# Altium integrated library exar.IntLib: 109 symbols
Pins are listed as number, name and electrical type; pins without a type are passive.

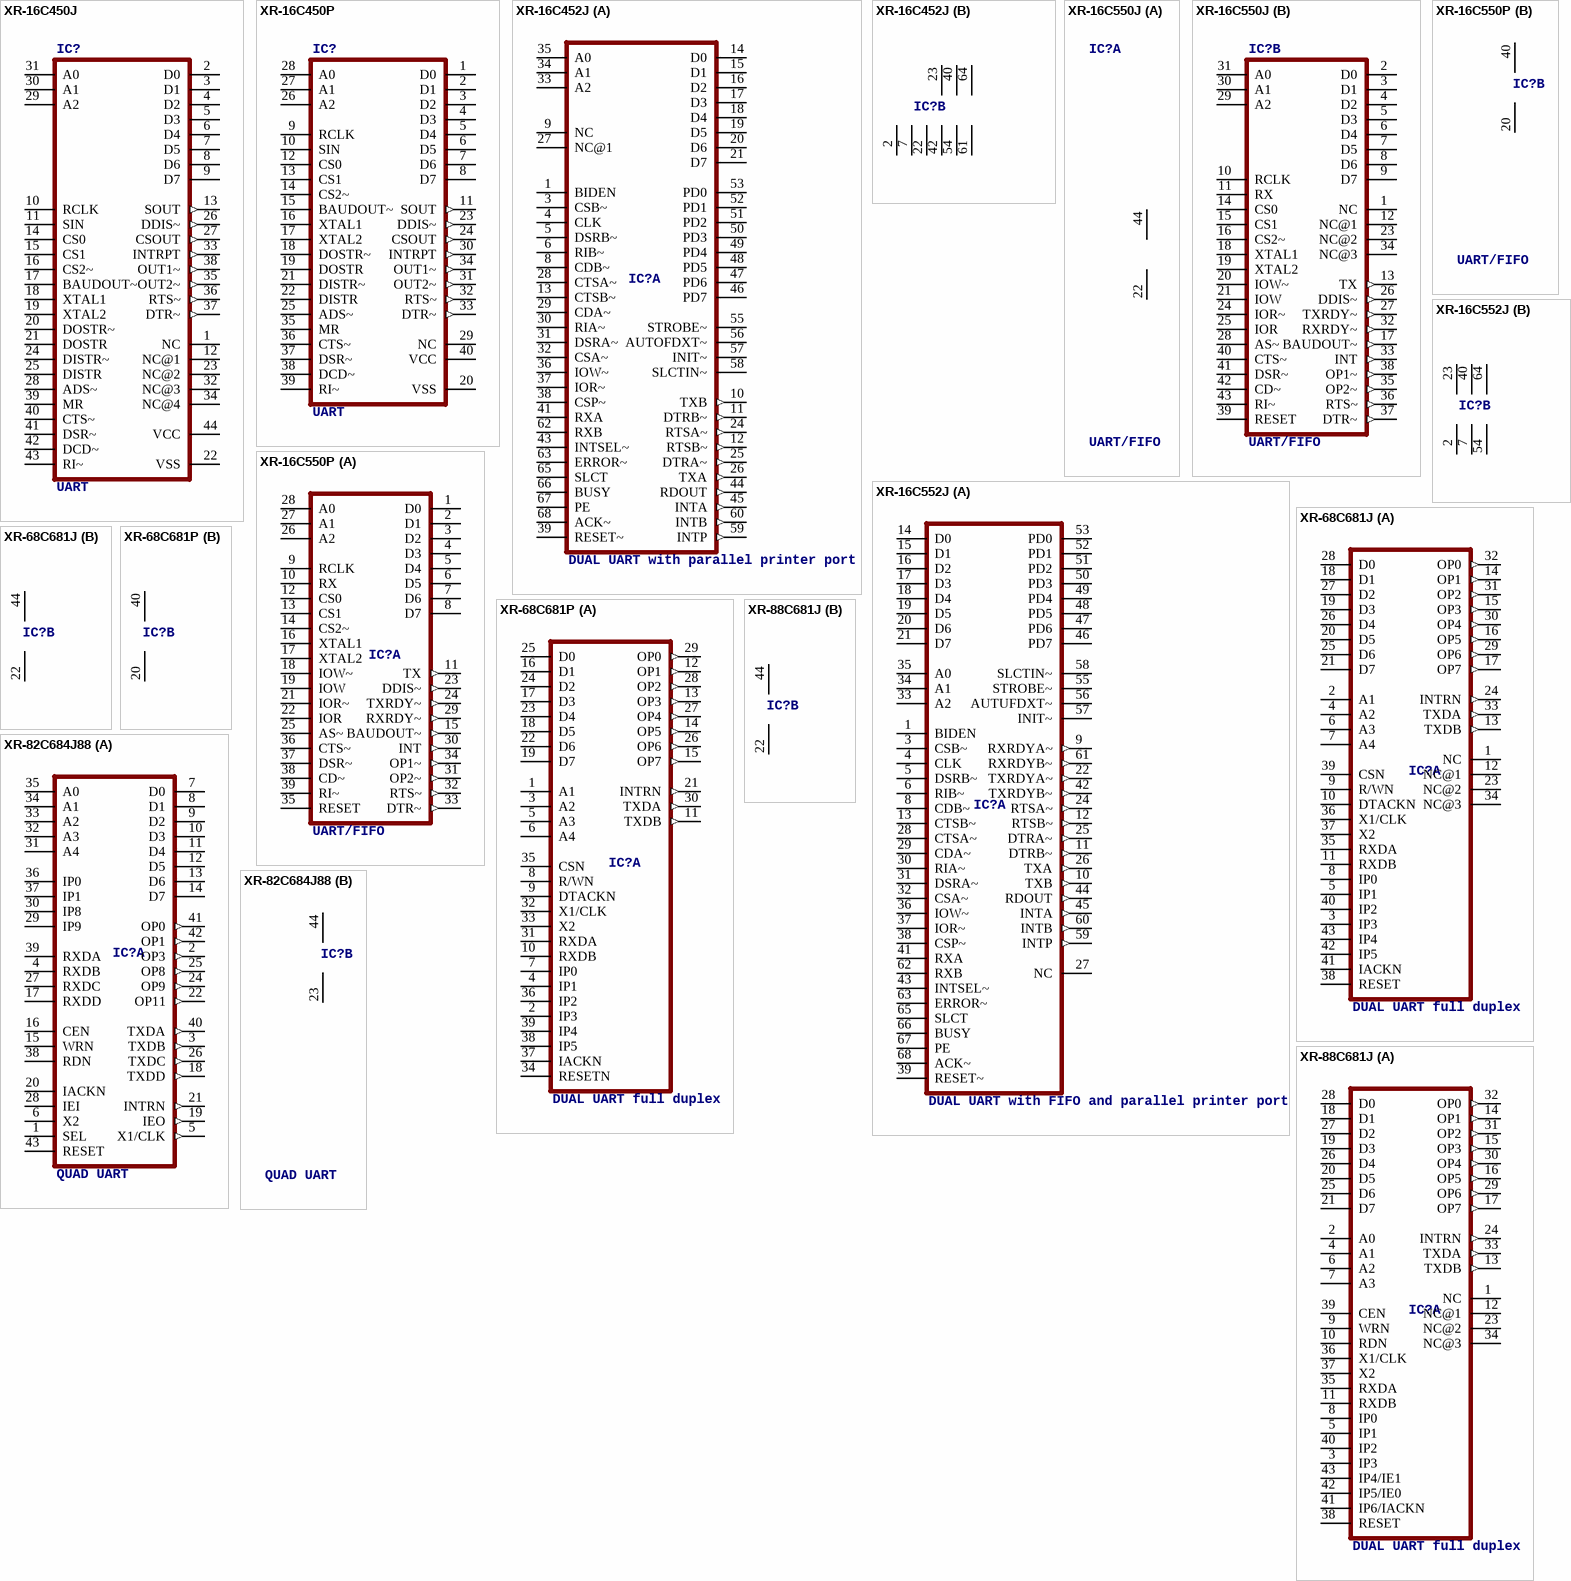
[diagram p0: symbols XR-16C450J to XR-88C681J]

## XR-16C450J
designator IC?, comment UART
MPN: TL16C450FNR; MF: TEXAS INSTRUMENTS; OC_FARNELL: unknown; OC_NEWARK: 76C9161
footprint PLCC44
pins: 1 NC, 2 D0, 3 D1, 4 D2, 5 D3, 6 D4, 7 D5, 8 D6, 9 D7, 10 RCLK, 11 SIN, 12 NC@1, 13 SOUT (out), 14 CS0, 15 CS1, 16 CS2~, 17 BAUDOUT~, 18 XTAL1, 19 XTAL2, 20 DOSTR~, 21 DOSTR, 22 VSS (power), 23 NC@2, 24 DISTR~, 25 DISTR, 26 DDIS~ (out), 27 CSOUT (out), 28 ADS~, 29 A2, 30 A1, 31 A0, 32 NC@3, 33 INTRPT (out), 34 NC@4, 35 OUT2~ (out), 36 RTS~ (out), 37 DTR~ (out), 38 OUT1~ (out), 39 MR, 40 CTS~, 41 DSR~, 42 DCD~, 43 RI~, 44 VCC (power)

## XR-16C450P
designator IC?, comment UART
MPN: ST16C450CP40; OC_FARNELL: 1209618; OC_NEWARK: 24R1445
footprint DIL40
pins: 1 D0, 2 D1, 3 D2, 4 D3, 5 D4, 6 D5, 7 D6, 8 D7, 9 RCLK, 10 SIN, 11 SOUT (out), 12 CS0, 13 CS1, 14 CS2~, 15 BAUDOUT~, 16 XTAL1, 17 XTAL2, 18 DOSTR~, 19 DOSTR, 20 VSS (power), 21 DISTR~, 22 DISTR, 23 DDIS~ (out), 24 CSOUT (out), 25 ADS~, 26 A2, 27 A1, 28 A0, 29 NC, 30 INTRPT (out), 31 OUT2~ (out), 32 RTS~ (out), 33 DTR~ (out), 34 OUT1~ (out), 35 MR, 36 CTS~, 37 DSR~, 38 DCD~, 39 RI~, 40 VCC (power)

## XR-16C452J
designator IC?, comment DUAL UART with parallel printer port
MPN: TL16C452FN; MF: TEXAS INSTRUMENTS; OC_FARNELL: unknown; OC_NEWARK: 15M1967
footprint PLCC68
part A pins: 1 BIDEN, 3 CSB~, 4 CLK, 5 DSRB~, 6 RIB~, 8 CDB~, 9 NC, 10 TXB (out), 11 DTRB~ (out), 12 RTSB~ (out), 13 CTSB~, 14 D0, 15 D1, 16 D2, 17 D3, 18 D4, 19 D5, 20 D6, 21 D7, 24 RTSA~ (out), 25 DTRA~ (out), 26 TXA (out), 27 NC@1, 28 CTSA~, 29 CDA~, 30 RIA~, 31 DSRA~, 32 CSA~, 33 A2, 34 A1, 35 A0, 36 IOW~, 37 IOR~, 38 CSP~, 39 RESET~, 41 RXA, 43 INTSEL~, 44 RDOUT (out), 45 INTA (out), 46 PD7, 47 PD6, 48 PD5, 49 PD4, 50 PD3, 51 PD2, 52 PD1, 53 PD0, 55 STROBE~, 56 AUTOFDXT~, 57 INIT~, 58 SLCTIN~, 59 INTP (out), 60 INTB (out), 62 RXB, 63 ERROR~, 65 SLCT, 66 BUSY, 67 PE, 68 ACK~
part B pins: 2 GND (power), 7 GND@1 (power), 22 GND@2 (power), 23 VCC (power), 40 VCC@1 (power), 42 GND@3 (power), 54 GND@4 (power), 61 GND@5 (power), 64 VCC@2 (power)

## XR-16C550J
designator IC?, comment UART/FIFO
MPN: SC16C550BIA44; OC_FARNELL: 1564955; OC_NEWARK: 24M7289
footprint PLCC44
part A pins: 22 GND (power), 44 VCC (power)
part B pins: 1 NC, 2 D0, 3 D1, 4 D2, 5 D3, 6 D4, 7 D5, 8 D6, 9 D7, 10 RCLK, 11 RX, 12 NC@1, 13 TX (out), 14 CS0, 15 CS1, 16 CS2~, 17 BAUDOUT~ (out), 18 XTAL1, 19 XTAL2, 20 IOW~, 21 IOW, 23 NC@2, 24 IOR~, 25 IOR, 26 DDIS~ (out), 27 TXRDY~ (out), 28 AS~, 29 A2, 30 A1, 31 A0, 32 RXRDY~ (out), 33 INT (out), 34 NC@3, 35 OP2~ (out), 36 RTS~ (out), 37 DTR~ (out), 38 OP1~ (out), 39 RESET, 40 CTS~, 41 DSR~, 42 CD~, 43 RI~

## XR-16C550P
designator IC?, comment UART/FIFO
MPN: ST16C450CP40; OC_FARNELL: 1294801; OC_NEWARK: 24R1445
footprint DIL40
part A pins: 1 D0, 2 D1, 3 D2, 4 D3, 5 D4, 6 D5, 7 D6, 8 D7, 9 RCLK, 10 RX, 11 TX (out), 12 CS0, 13 CS1, 14 CS2~, 15 BAUDOUT~ (out), 16 XTAL1, 17 XTAL2, 18 IOW~, 19 IOW, 21 IOR~, 22 IOR, 23 DDIS~ (out), 24 TXRDY~ (out), 25 AS~, 26 A2, 27 A1, 28 A0, 29 RXRDY~ (out), 30 INT (out), 31 OP2~ (out), 32 RTS~ (out), 33 DTR~ (out), 34 OP1~ (out), 35 RESET, 36 CTS~, 37 DSR~, 38 CD~, 39 RI~
part B pins: 20 GND (power), 40 VCC (power)

## XR-16C552J
designator IC?, comment DUAL UART with FIFO and parallel printer port
MPN: TL16C552AFNRG4; OC_FARNELL: 1703245; OC_NEWARK: 99K4382
footprint PLCC68
part A pins: 1 BIDEN, 3 CSB~, 4 CLK, 5 DSRB~, 6 RIB~, 8 CDB~, 9 RXRDYA~ (out), 10 TXB (out), 11 DTRB~ (out), 12 RTSB~ (out), 13 CTSB~, 14 D0, 15 D1, 16 D2, 17 D3, 18 D4, 19 D5, 20 D6, 21 D7, 22 TXRDYA~ (out), 24 RTSA~ (out), 25 DTRA~ (out), 26 TXA (out), 27 NC, 28 CTSA~, 29 CDA~, 30 RIA~, 31 DSRA~, 32 CSA~, 33 A2, 34 A1, 35 A0, 36 IOW~, 37 IOR~, 38 CSP~, 39 RESET~, 41 RXA, 42 TXRDYB~ (out), 43 INTSEL~, 44 RDOUT (out), 45 INTA (out), 46 PD7, 47 PD6, 48 PD5, 49 PD4, 50 PD3, 51 PD2, 52 PD1, 53 PD0, 55 STROBE~, 56 AUTUFDXT~, 57 INIT~, 58 SLCTIN~, 59 INTP (out), 60 INTB (out), 61 RXRDYB~ (out), 62 RXB, 63 ERROR~, 65 SLCT, 66 BUSY, 67 PE, 68 ACK~
part B pins: 2 GND (power), 7 GND@1 (power), 23 VCC (power), 40 VCC@1 (power), 54 GND@2 (power), 64 VCC@2 (power)

## XR-68C681J
designator IC?, comment DUAL UART full duplex
MPN: XR68C681J-F; OC_FARNELL: 1716908; OC_NEWARK: 24R2385
footprint PLCC44
part A pins: 1 NC, 2 A1, 3 IP3, 4 A2, 5 IP1, 6 A3, 7 A4, 8 IP0, 9 R/WN, 10 DTACKN, 11 RXDB, 12 NC@1, 13 TXDB (out), 14 OP1 (out), 15 OP3 (out), 16 OP5 (out), 17 OP7 (out), 18 D1, 19 D3, 20 D5, 21 D7, 23 NC@2, 24 INTRN (out), 25 D6, 26 D4, 27 D2, 28 D0, 29 OP6 (out), 30 OP4 (out), 31 OP2 (out), 32 OP0 (out), 33 TXDA (out), 34 NC@3, 35 RXDA, 36 X1/CLK, 37 X2, 38 RESET, 39 CSN, 40 IP2, 41 IACKN, 42 IP5, 43 IP4
part B pins: 22 GND (power), 44 VCC (power)

## XR-68C681P
designator IC?, comment DUAL UART full duplex
MPN: XR68C681P; OC_FARNELL: unknown; OC_NEWARK: 24R2389
footprint DIL40
part A pins: 1 A1, 2 IP3, 3 A2, 4 IP1, 5 A3, 6 A4, 7 IP0, 8 R/WN, 9 DTACKN, 10 RXDB, 11 TXDB (out), 12 OP1 (out), 13 OP3 (out), 14 OP5 (out), 15 OP7 (out), 16 D1, 17 D3, 18 D5, 19 D7, 21 INTRN (out), 22 D6, 23 D4, 24 D2, 25 D0, 26 OP6 (out), 27 OP4 (out), 28 OP2 (out), 29 OP0 (out), 30 TXDA (out), 31 RXDA, 32 X1/CLK, 33 X2, 34 RESETN, 35 CSN, 36 IP2, 37 IACKN, 38 IP5, 39 IP4
part B pins: 20 GND (power), 40 VCC (power)

## XR-82C684J88
designator IC?, comment QUAD UART
OC_FARNELL: unknown; OC_NEWARK: unknown
footprint PLCC44
part A pins: 1 SEL, 2 OP3 (out), 3 TXDB (out), 4 RXDB, 5 X1/CLK (out), 6 X2, 7 D0, 8 D1, 9 D2, 10 D3, 11 D4, 12 D5, 13 D6, 14 D7, 15 WRN, 16 CEN, 17 RXDD, 18 TXDD (out), 19 IEO (out), 20 IACKN, 21 INTRN (out), 22 OP11 (out), 24 OP9 (out), 25 OP8 (out), 26 TXDC (out), 27 RXDC, 28 IEI, 29 IP9, 30 IP8, 31 A4, 32 A3, 33 A2, 34 A1, 35 A0, 36 IP0, 37 IP1, 38 RDN, 39 RXDA, 40 TXDA (out), 41 OP0 (out), 42 OP1 (out), 43 RESET
part B pins: 23 GND (power), 44 VCC (power)

## XR-88C681J
designator IC?, comment DUAL UART full duplex
MPN: XR88C681J-F; OC_FARNELL: 1716912; OC_NEWARK: 24R2425
footprint PLCC44
part A pins: 1 NC, 2 A0, 3 IP3, 4 A1, 5 IP1, 6 A2, 7 A3, 8 IP0, 9 WRN, 10 RDN, 11 RXDB, 12 NC@1, 13 TXDB (out), 14 OP1 (out), 15 OP3 (out), 16 OP5 (out), 17 OP7 (out), 18 D1, 19 D3, 20 D5, 21 D7, 23 NC@2, 24 INTRN (out), 25 D6, 26 D4, 27 D2, 28 D0, 29 OP6 (out), 30 OP4 (out), 31 OP2 (out), 32 OP0 (out), 33 TXDA (out), 34 NC@3, 35 RXDA, 36 X1/CLK, 37 X2, 38 RESET, 39 CEN, 40 IP2, 41 IP6/IACKN, 42 IP5/IE0, 43 IP4/IE1
part B pins: 22 GND (power), 44 VCC (power)

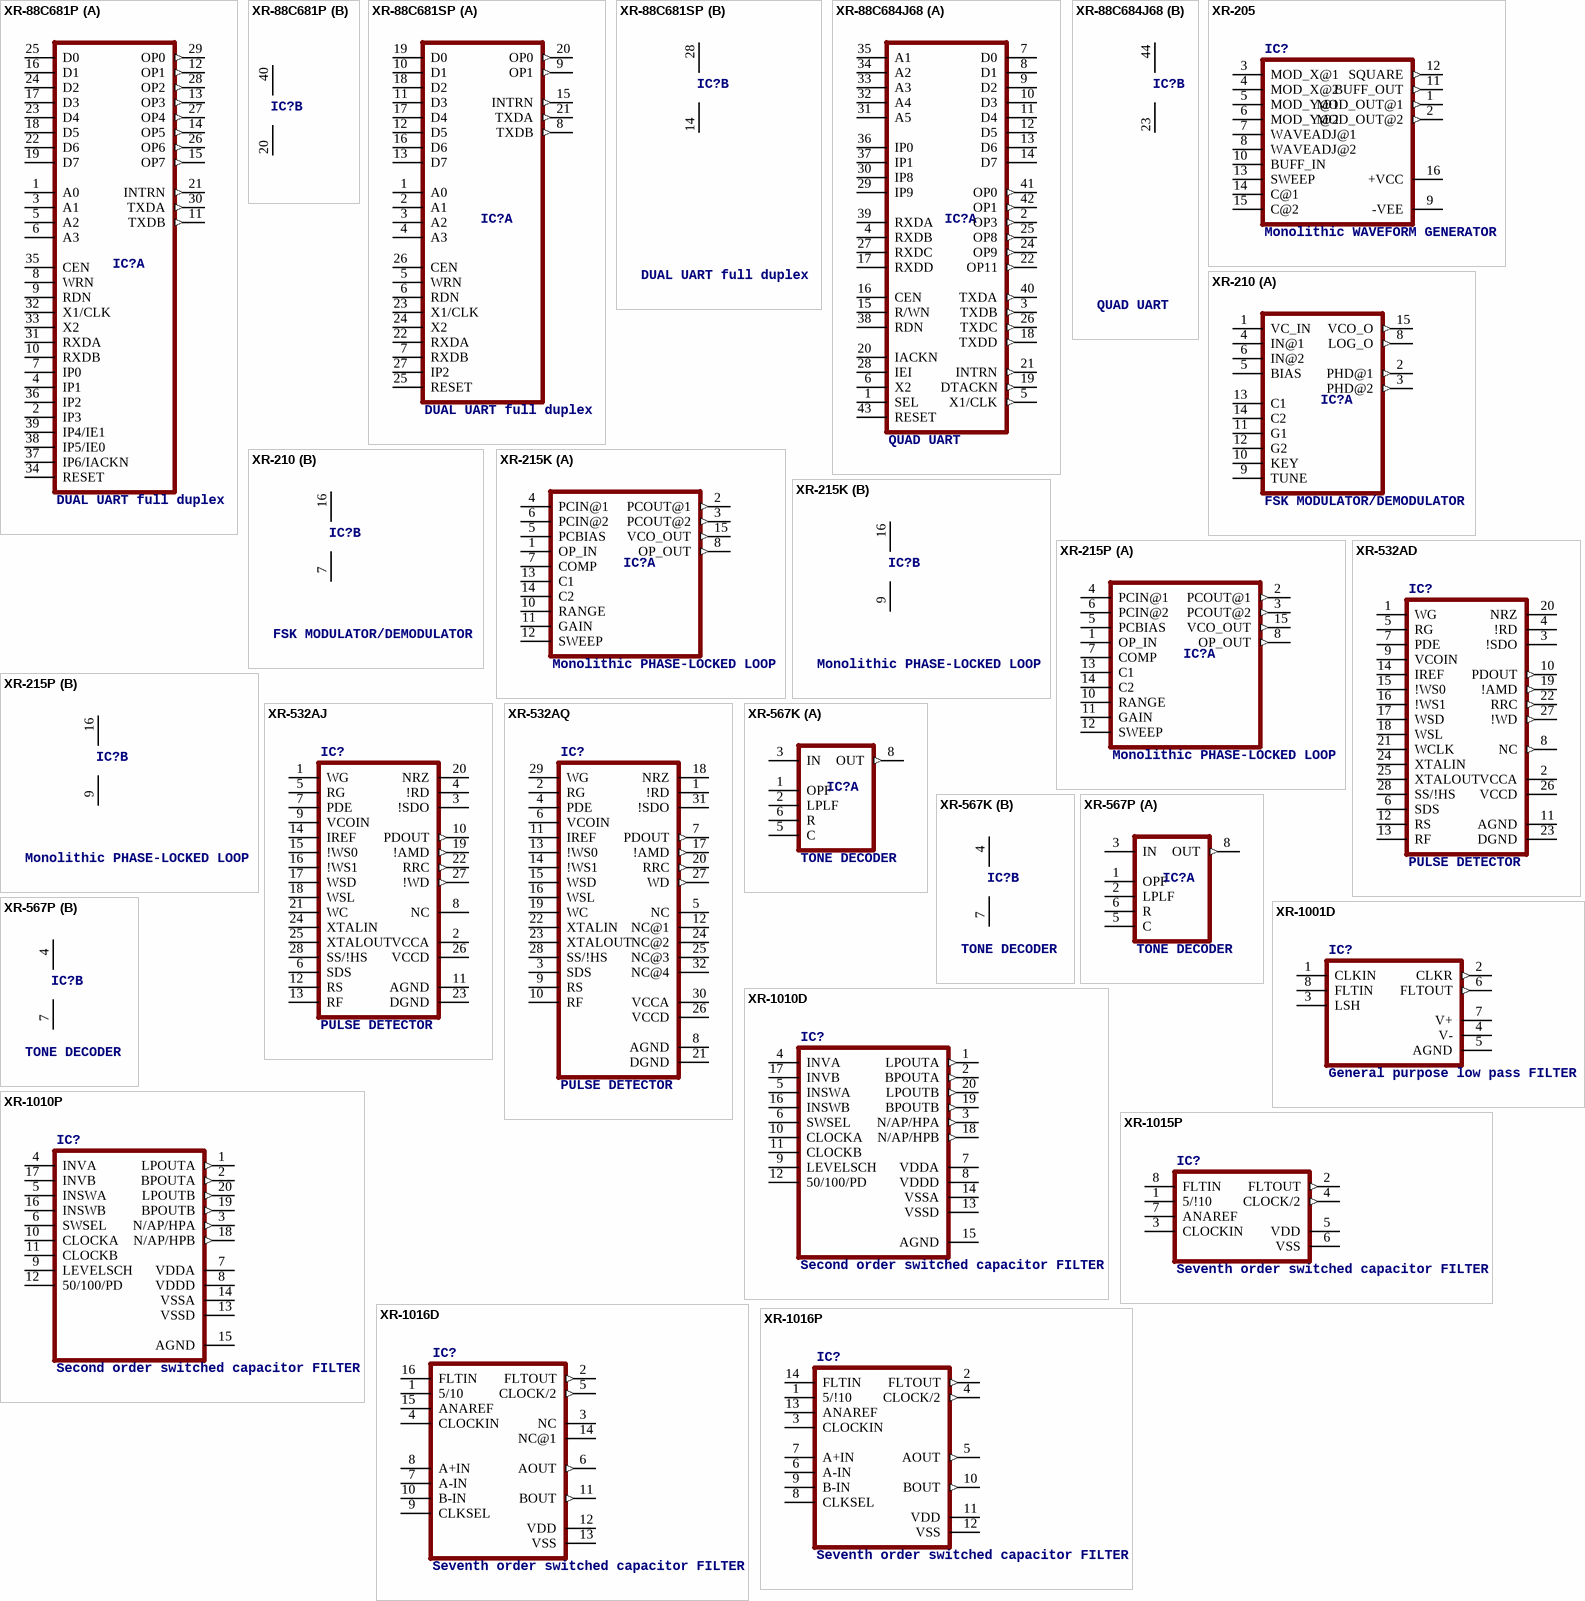
[diagram p1: symbols XR-88C681P to XR-1016P]

## XR-88C681P
designator IC?, comment DUAL UART full duplex
MPN: XR88C681CP/40-F; OC_FARNELL: 1095818; OC_NEWARK: 53R0425
footprint DIL40
part A pins: 1 A0, 2 IP3, 3 A1, 4 IP1, 5 A2, 6 A3, 7 IP0, 8 WRN, 9 RDN, 10 RXDB, 11 TXDB (out), 12 OP1 (out), 13 OP3 (out), 14 OP5 (out), 15 OP7 (out), 16 D1, 17 D3, 18 D5, 19 D7, 21 INTRN (out), 22 D6, 23 D4, 24 D2, 25 D0, 26 OP6 (out), 27 OP4 (out), 28 OP2 (out), 29 OP0 (out), 30 TXDA (out), 31 RXDA, 32 X1/CLK, 33 X2, 34 RESET, 35 CEN, 36 IP2, 37 IP6/IACKN, 38 IP5/IE0, 39 IP4/IE1
part B pins: 20 GND (power), 40 VCC (power)

## XR-88C681SP
designator IC?, comment DUAL UART full duplex
MPN: XR88C681CP/40-F; OC_FARNELL: 1095818; OC_NEWARK: 53R0425
footprint DIL28-6
part A pins: 1 A0, 2 A1, 3 A2, 4 A3, 5 WRN, 6 RDN, 7 RXDB, 8 TXDB (out), 9 OP1 (out), 10 D1, 11 D3, 12 D5, 13 D7, 15 INTRN (out), 16 D6, 17 D4, 18 D2, 19 D0, 20 OP0 (out), 21 TXDA (out), 22 RXDA, 23 X1/CLK, 24 X2, 25 RESET, 26 CEN, 27 IP2
part B pins: 14 GND (power), 28 VCC (power)

## XR-88C684J68
designator IC?, comment QUAD UART
OC_FARNELL: unknown; OC_NEWARK: unknown
footprint PLCC44
part A pins: 1 SEL, 2 OP3 (out), 3 TXDB (out), 4 RXDB, 5 X1/CLK (out), 6 X2, 7 D0, 8 D1, 9 D2, 10 D3, 11 D4, 12 D5, 13 D6, 14 D7, 15 R/WN, 16 CEN, 17 RXDD, 18 TXDD (out), 19 DTACKN (out), 20 IACKN, 21 INTRN (out), 22 OP11 (out), 24 OP9 (out), 25 OP8 (out), 26 TXDC (out), 27 RXDC, 28 IEI, 29 IP9, 30 IP8, 31 A5, 32 A4, 33 A3, 34 A2, 35 A1, 36 IP0, 37 IP1, 38 RDN, 39 RXDA, 40 TXDA (out), 41 OP0 (out), 42 OP1 (out), 43 RESET
part B pins: 23 GND (power), 44 VCC (power)

## XR-205
designator IC?, comment Monolithic WAVEFORM GENERATOR
OC_FARNELL: unknown; OC_NEWARK: unknown
footprint DIL16
pins: 1 MOD_OUT@1 (out), 2 MOD_OUT@2 (out), 3 MOD_X@1, 4 MOD_X@2, 5 MOD_Y@1, 6 MOD_Y@2, 7 WAVEADJ@1, 8 WAVEADJ@2, 9 -VEE (power), 10 BUFF_IN, 11 BUFF_OUT (out), 12 SQUARE (out), 13 SWEEP, 14 C@1, 15 C@2, 16 +VCC (power)

## XR-210
designator IC?, comment FSK MODULATOR/DEMODULATOR
OC_FARNELL: unknown; OC_NEWARK: unknown
footprint DIL16
part A pins: 1 VC_IN, 2 PHD@1 (out), 3 PHD@2 (out), 4 IN@1, 5 BIAS, 6 IN@2, 8 LOG_O (out), 9 TUNE, 10 KEY, 11 G1, 12 G2, 13 C1, 14 C2, 15 VCO_O (out)
part B pins: 7 VEE (power), 16 VCC (power)

## XR-215K
designator IC?, comment Monolithic PHASE-LOCKED LOOP
OC_FARNELL: unknown; OC_NEWARK: unknown
footprint JSOP-16
part A pins: 1 OP_IN, 2 PCOUT@1 (out), 3 PCOUT@2 (out), 4 PCIN@1, 5 PCBIAS, 6 PCIN@2, 7 COMP, 8 OP_OUT (out), 10 RANGE, 11 GAIN, 12 SWEEP, 13 C1, 14 C2, 15 VCO_OUT (out)
part B pins: 9 VEE (power), 16 VCC (power)

## XR-215P
designator IC?, comment Monolithic PHASE-LOCKED LOOP
OC_FARNELL: unknown; OC_NEWARK: unknown
footprint DIL16
part A pins: 1 OP_IN, 2 PCOUT@1 (out), 3 PCOUT@2 (out), 4 PCIN@1, 5 PCBIAS, 6 PCIN@2, 7 COMP, 8 OP_OUT (out), 10 RANGE, 11 GAIN, 12 SWEEP, 13 C1, 14 C2, 15 VCO_OUT (out)
part B pins: 9 VEE (power), 16 VCC (power)

## XR-532AD
designator IC?, comment PULSE DETECTOR
OC_FARNELL: unknown; OC_NEWARK: unknown
footprint SO-28LD
pins: 1 WG, 2 VCCA (power), 3 !SDO, 4 !RD, 5 RG, 6 SDS, 7 PDE, 8 NC (out), 9 VCOIN, 10 PDOUT (out), 11 AGND (power), 12 RS, 13 RF, 14 IREF, 15 !WS0, 16 !WS1, 17 WSD, 18 WSL, 19 !AMD (out), 20 NRZ, 21 WCLK, 22 RRC (out), 23 DGND (power), 24 XTALIN, 25 XTALOUT, 26 VCCD (power), 27 !WD (out), 28 SS/!HS

## XR-532AJ
designator IC?, comment PULSE DETECTOR
OC_FARNELL: unknown; OC_NEWARK: unknown
footprint PLCC28
pins: 1 WG, 2 VCCA (power), 3 !SDO, 4 !RD, 5 RG, 6 SDS, 7 PDE, 8 NC, 9 VCOIN, 10 PDOUT (out), 11 AGND (power), 12 RS, 13 RF, 14 IREF, 15 !WS0, 16 !WS1, 17 WSD, 18 WSL, 19 !AMD (out), 20 NRZ, 21 WC, 22 RRC (out), 23 DGND (power), 24 XTALIN, 25 XTALOUT, 26 VCCD (power), 27 !WD (out), 28 SS/!HS

## XR-532AQ
designator IC?, comment PULSE DETECTOR
OC_FARNELL: unknown; OC_NEWARK: unknown
footprint QFP-32
pins: 1 !RD, 2 RG, 3 SDS, 4 PDE, 5 NC, 6 VCOIN, 7 PDOUT (out), 8 AGND (power), 9 RS, 10 RF, 11 IREF, 12 NC@1, 13 !WS0, 14 !WS1, 15 WSD, 16 WSL, 17 !AMD (out), 18 NRZ, 19 WC, 20 RRC (out), 21 DGND (power), 22 XTALIN, 23 XTALOUT, 24 NC@2, 25 NC@3, 26 VCCD (power), 27 WD (out), 28 SS/!HS, 29 WG, 30 VCCA (power), 31 !SDO, 32 NC@4

## XR-567K
designator IC?, comment TONE DECODER
OC_FARNELL: unknown; OC_NEWARK: unknown
footprint JSOP-08
part A pins: 1 OPF, 2 LPLF, 3 IN, 5 C, 6 R, 8 OUT (out)
part B pins: 4 VCC (power), 7 GND (power)

## XR-567P
designator IC?, comment TONE DECODER
OC_FARNELL: unknown; OC_NEWARK: unknown
footprint DIL08
part A pins: 1 OPF, 2 LPLF, 3 IN, 5 C, 6 R, 8 OUT (out)
part B pins: 4 VCC (power), 7 GND (power)

## XR-1001D
designator IC?, comment General purpose low pass FILTER
OC_FARNELL: unknown; OC_NEWARK: unknown
footprint SO-08
pins: 1 CLKIN, 2 CLKR (out), 3 LSH, 4 V- (power), 5 AGND (power), 6 FLTOUT (out), 7 V+ (power), 8 FLTIN

## XR-1010D
designator IC?, comment Second order switched capacitor FILTER
OC_FARNELL: unknown; OC_NEWARK: unknown
footprint SO-20LD
pins: 1 LPOUTA (out), 2 BPOUTA (out), 3 N/AP/HPA (out), 4 INVA, 5 INSWA, 6 SWSEL, 7 VDDA (power), 8 VDDD (power), 9 LEVELSCH, 10 CLOCKA, 11 CLOCKB, 12 50/100/PD, 13 VSSD (power), 14 VSSA (power), 15 AGND (power), 16 INSWB, 17 INVB, 18 N/AP/HPB (out), 19 BPOUTB (out), 20 LPOUTB (out)

## XR-1010P
designator IC?, comment Second order switched capacitor FILTER
OC_FARNELL: unknown; OC_NEWARK: unknown
footprint DIL20
pins: 1 LPOUTA (out), 2 BPOUTA (out), 3 N/AP/HPA (out), 4 INVA, 5 INSWA, 6 SWSEL, 7 VDDA (power), 8 VDDD (power), 9 LEVELSCH, 10 CLOCKA, 11 CLOCKB, 12 50/100/PD, 13 VSSD (power), 14 VSSA (power), 15 AGND (power), 16 INSWB, 17 INVB, 18 N/AP/HPB (out), 19 BPOUTB (out), 20 LPOUTB (out)

## XR-1015P
designator IC?, comment Seventh order switched capacitor FILTER
OC_FARNELL: unknown; OC_NEWARK: unknown
footprint DIL08
pins: 1 5/!10, 2 FLTOUT (out), 3 CLOCKIN, 4 CLOCK/2 (out), 5 VDD (power), 6 VSS (power), 7 ANAREF, 8 FLTIN

## XR-1016D
designator IC?, comment Seventh order switched capacitor FILTER
OC_FARNELL: unknown; OC_NEWARK: unknown
footprint SO-16LD
pins: 1 5/10, 2 FLTOUT (out), 3 NC, 4 CLOCKIN, 5 CLOCK/2 (out), 6 AOUT (out), 7 A-IN, 8 A+IN, 9 CLKSEL, 10 B-IN, 11 BOUT (out), 12 VDD (power), 13 VSS (power), 14 NC@1, 15 ANAREF, 16 FLTIN

## XR-1016P
designator IC?, comment Seventh order switched capacitor FILTER
OC_FARNELL: unknown; OC_NEWARK: unknown
footprint DIL14
pins: 1 5/!10, 2 FLTOUT (out), 3 CLOCKIN, 4 CLOCK/2 (out), 5 AOUT (out), 6 A-IN, 7 A+IN, 8 CLKSEL, 9 B-IN, 10 BOUT (out), 11 VDD (power), 12 VSS (power), 13 ANAREF, 14 FLTIN

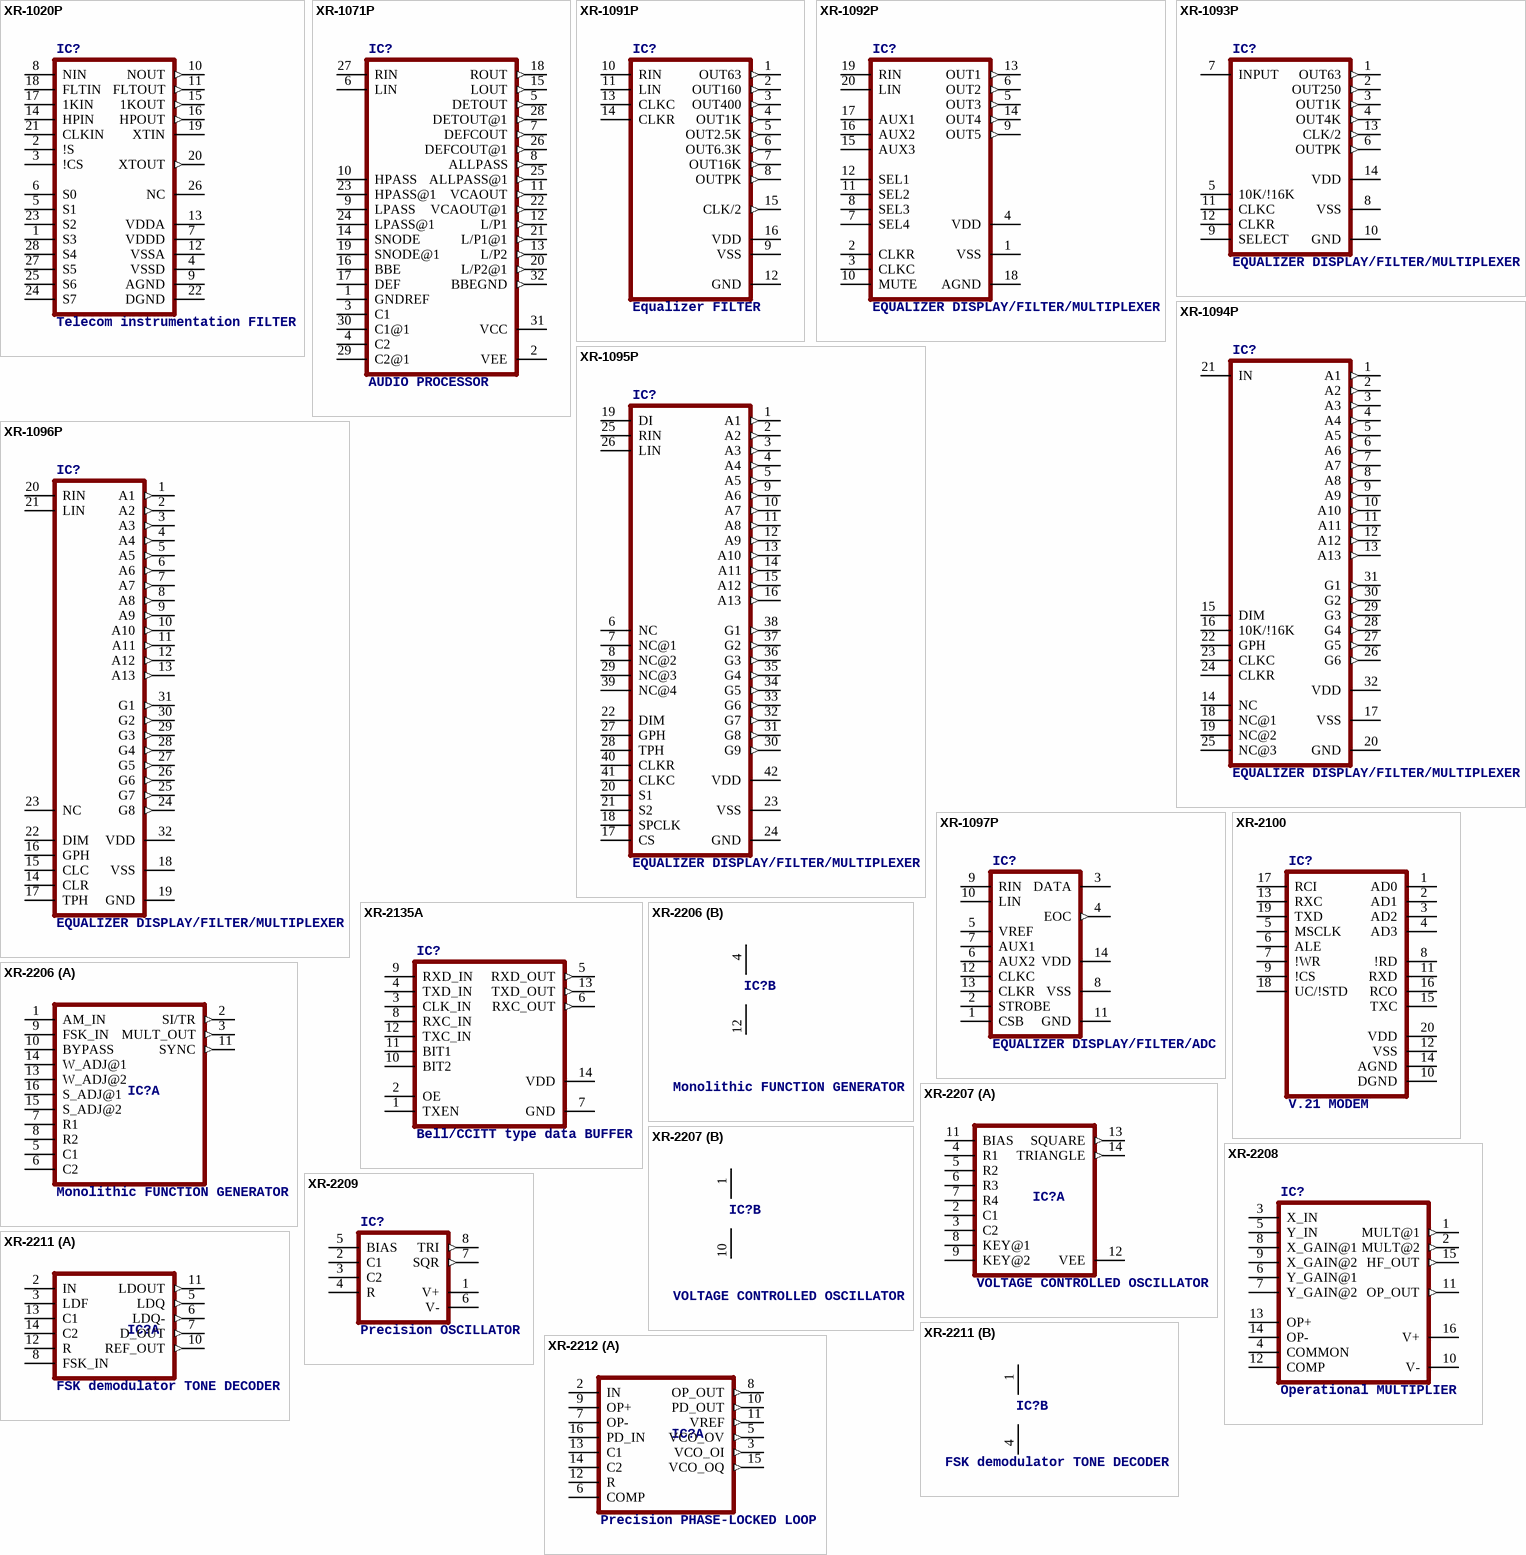
[diagram p2: symbols XR-1020P to XR-2212]

## XR-1020P
designator IC?, comment Telecom instrumentation FILTER
OC_FARNELL: unknown; OC_NEWARK: unknown
footprint DIL28-6
pins: 1 S3, 2 !S, 3 !CS, 4 VSSD (power), 5 S1, 6 S0, 7 VDDD (power), 8 NIN, 9 AGND (power), 10 NOUT (out), 11 FLTOUT (out), 12 VSSA (power), 13 VDDA (power), 14 HPIN, 15 1KOUT (out), 16 HPOUT (out), 17 1KIN, 18 FLTIN, 19 XTIN, 20 XTOUT (out), 21 CLKIN, 22 DGND (power), 23 S2, 24 S7, 25 S6, 26 NC, 27 S5, 28 S4

## XR-1071P
designator IC?, comment AUDIO PROCESSOR
OC_FARNELL: unknown; OC_NEWARK: unknown
footprint DIL32
pins: 1 GNDREF, 2 VEE (power), 3 C1, 4 C2, 5 DETOUT (out), 6 LIN, 7 DEFCOUT (out), 8 ALLPASS (out), 9 LPASS, 10 HPASS, 11 VCAOUT (out), 12 L/P1 (out), 13 L/P2 (out), 14 SNODE, 15 LOUT (out), 16 BBE, 17 DEF, 18 ROUT (out), 19 SNODE@1, 20 L/P2@1 (out), 21 L/P1@1 (out), 22 VCAOUT@1 (out), 23 HPASS@1, 24 LPASS@1, 25 ALLPASS@1 (out), 26 DEFCOUT@1 (out), 27 RIN, 28 DETOUT@1 (out), 29 C2@1, 30 C1@1, 31 VCC (power), 32 BBEGND (out)

## XR-1091P
designator IC?, comment Equalizer FILTER
OC_FARNELL: unknown; OC_NEWARK: unknown
footprint DIL16
pins: 1 OUT63 (out), 2 OUT160 (out), 3 OUT400 (out), 4 OUT1K (out), 5 OUT2.5K (out), 6 OUT6.3K (out), 7 OUT16K (out), 8 OUTPK (out), 9 VSS (power), 10 RIN, 11 LIN, 12 GND (power), 13 CLKC, 14 CLKR, 15 CLK/2 (out), 16 VDD (power)

## XR-1092P
designator IC?, comment EQUALIZER DISPLAY/FILTER/MULTIPLEXER
OC_FARNELL: unknown; OC_NEWARK: unknown
footprint DIL20
pins: 1 VSS (power), 2 CLKR, 3 CLKC, 4 VDD (power), 5 OUT3 (out), 6 OUT2 (out), 7 SEL4, 8 SEL3, 9 OUT5 (out), 10 MUTE, 11 SEL2, 12 SEL1, 13 OUT1 (out), 14 OUT4 (out), 15 AUX3, 16 AUX2, 17 AUX1, 18 AGND (power), 19 RIN, 20 LIN

## XR-1093P
designator IC?, comment EQUALIZER DISPLAY/FILTER/MULTIPLEXER
OC_FARNELL: unknown; OC_NEWARK: unknown
footprint DIL14
pins: 1 OUT63 (out), 2 OUT250 (out), 3 OUT1K (out), 4 OUT4K (out), 5 10K/!16K, 6 OUTPK (out), 7 INPUT, 8 VSS (power), 9 SELECT, 10 GND (power), 11 CLKC, 12 CLKR, 13 CLK/2 (out), 14 VDD (power)

## XR-1094P
designator IC?, comment EQUALIZER DISPLAY/FILTER/MULTIPLEXER
OC_FARNELL: unknown; OC_NEWARK: unknown
footprint DIL32
pins: 1 A1 (out), 2 A2 (out), 3 A3 (out), 4 A4 (out), 5 A5 (out), 6 A6 (out), 7 A7 (out), 8 A8 (out), 9 A9 (out), 10 A10 (out), 11 A11 (out), 12 A12 (out), 13 A13 (out), 14 NC, 15 DIM, 16 10K/!16K, 17 VSS (power), 18 NC@1, 19 NC@2, 20 GND (power), 21 IN, 22 GPH, 23 CLKC, 24 CLKR, 25 NC@3, 26 G6 (out), 27 G5 (out), 28 G4 (out), 29 G3 (out), 30 G2 (out), 31 G1 (out), 32 VDD (power)

## XR-1095P
designator IC?, comment EQUALIZER DISPLAY/FILTER/MULTIPLEXER
OC_FARNELL: unknown; OC_NEWARK: unknown
footprint DIL42
pins: 1 A1 (out), 2 A2 (out), 3 A3 (out), 4 A4 (out), 5 A5 (out), 6 NC, 7 NC@1, 8 NC@2, 9 A6 (out), 10 A7 (out), 11 A8 (out), 12 A9 (out), 13 A10 (out), 14 A11 (out), 15 A12 (out), 16 A13 (out), 17 CS, 18 SPCLK, 19 DI, 20 S1, 21 S2, 22 DIM, 23 VSS (power), 24 GND (power), 25 RIN, 26 LIN, 27 GPH, 28 TPH, 29 NC@3, 30 G9 (out), 31 G8 (out), 32 G7 (out), 33 G6 (out), 34 G5 (out), 35 G4 (out), 36 G3 (out), 37 G2 (out), 38 G1 (out), 39 NC@4, 40 CLKR, 41 CLKC, 42 VDD (power)

## XR-1096P
designator IC?, comment EQUALIZER DISPLAY/FILTER/MULTIPLEXER
OC_FARNELL: unknown; OC_NEWARK: unknown
footprint DIL32
pins: 1 A1 (out), 2 A2 (out), 3 A3 (out), 4 A4 (out), 5 A5 (out), 6 A6 (out), 7 A7 (out), 8 A8 (out), 9 A9 (out), 10 A10 (out), 11 A11 (out), 12 A12 (out), 13 A13 (out), 14 CLR, 15 CLC, 16 GPH, 17 TPH, 18 VSS (power), 19 GND (power), 20 RIN, 21 LIN, 22 DIM, 23 NC, 24 G8 (out), 25 G7 (out), 26 G6 (out), 27 G5 (out), 28 G4 (out), 29 G3 (out), 30 G2 (out), 31 G1 (out), 32 VDD (power)

## XR-1097P
designator IC?, comment EQUALIZER DISPLAY/FILTER/ADC
OC_FARNELL: unknown; OC_NEWARK: unknown
footprint DIL14
pins: 1 CSB, 2 STROBE, 3 DATA, 4 EOC (out), 5 VREF, 6 AUX2, 7 AUX1, 8 VSS (power), 9 RIN, 10 LIN, 11 GND (power), 12 CLKC, 13 CLKR, 14 VDD (power)

## XR-2100
designator IC?, comment V.21 MODEM
OC_FARNELL: unknown; OC_NEWARK: unknown
footprint DIL20
pins: 1 AD0, 2 AD1, 3 AD2, 4 AD3, 5 MSCLK, 6 ALE, 7 !WR, 8 !RD, 9 !CS, 10 DGND (power), 11 RXD, 12 VSS (power), 13 RXC, 14 AGND (power), 15 TXC, 16 RCO, 17 RCI, 18 UC/!STD, 19 TXD, 20 VDD (power)

## XR-2135A
designator IC?, comment Bell/CCITT type data BUFFER
OC_FARNELL: unknown; OC_NEWARK: unknown
footprint DIL14
pins: 1 TXEN, 2 OE, 3 CLK_IN, 4 TXD_IN, 5 RXD_OUT (out), 6 RXC_OUT (out), 7 GND (power), 8 RXC_IN, 9 RXD_IN, 10 BIT2, 11 BIT1, 12 TXC_IN, 13 TXD_OUT (out), 14 VDD (power)

## XR-2206
designator IC?, comment Monolithic FUNCTION GENERATOR
OC_FARNELL: unknown; OC_NEWARK: unknown
footprint DIL16
part A pins: 1 AM_IN, 2 SI/TR (out), 3 MULT_OUT (out), 5 C1, 6 C2, 7 R1, 8 R2, 9 FSK_IN, 10 BYPASS, 11 SYNC (out), 13 W_ADJ@2, 14 W_ADJ@1, 15 S_ADJ@2, 16 S_ADJ@1
part B pins: 4 VCC (power), 12 GND (power)

## XR-2207
designator IC?, comment VOLTAGE CONTROLLED OSCILLATOR
OC_FARNELL: unknown; OC_NEWARK: unknown
footprint DIL14
part A pins: 2 C1, 3 C2, 4 R1, 5 R2, 6 R3, 7 R4, 8 KEY@1, 9 KEY@2, 11 BIAS, 12 VEE (power), 13 SQUARE (out), 14 TRIANGLE (out)
part B pins: 1 VCC (power), 10 GND (power)

## XR-2208
designator IC?, comment Operational MULTIPLIER
OC_FARNELL: unknown; OC_NEWARK: unknown
footprint DIL16
pins: 1 MULT@1 (out), 2 MULT@2 (out), 3 X_IN, 4 COMMON, 5 Y_IN, 6 Y_GAIN@1, 7 Y_GAIN@2, 8 X_GAIN@1, 9 X_GAIN@2, 10 V- (power), 11 OP_OUT (out), 12 COMP, 13 OP+, 14 OP-, 15 HF_OUT (out), 16 V+ (power)

## XR-2209
designator IC?, comment Precision OSCILLATOR
OC_FARNELL: unknown; OC_NEWARK: unknown
footprint DIL08
pins: 1 V+ (power), 2 C1, 3 C2, 4 R, 5 BIAS, 6 V- (power), 7 SQR (out), 8 TRI (out)

## XR-2211
designator IC?, comment FSK demodulator TONE DECODER
OC_FARNELL: unknown; OC_NEWARK: unknown
footprint DIL14
part A pins: 2 IN, 3 LDF, 5 LDQ (out), 6 LDQ- (out), 7 D_OUT (out), 8 FSK_IN, 10 REF_OUT (out), 11 LDOUT (out), 12 R, 13 C1, 14 C2
part B pins: 1 VCC (power), 4 GND (power)

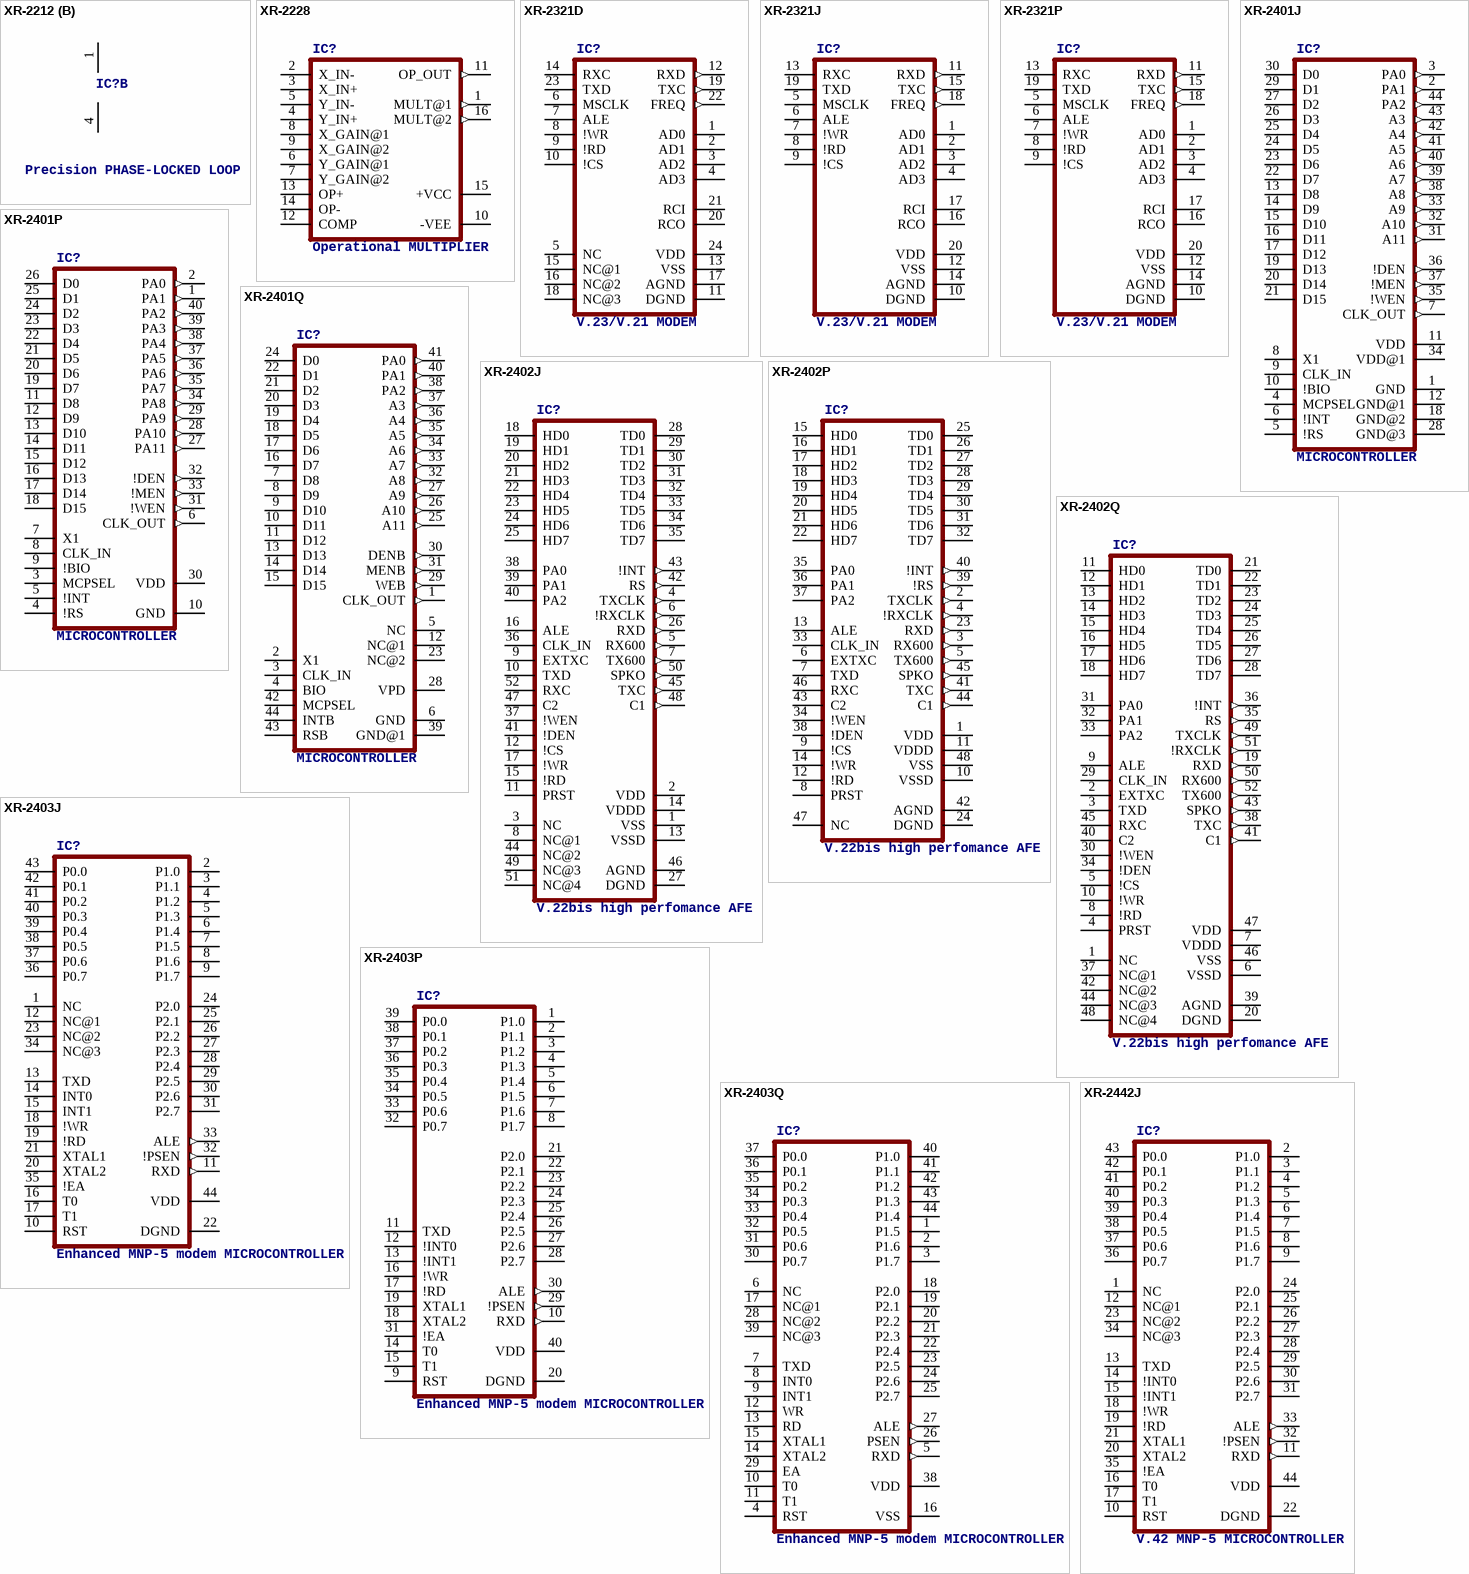
[diagram p3: symbols XR-2212 to XR-2442J]

## XR-2212
designator IC?, comment Precision PHASE-LOCKED LOOP
OC_FARNELL: unknown; OC_NEWARK: unknown
footprint DIL16
part A pins: 2 IN, 3 VCO_OI (out), 5 VCO_OV (out), 6 COMP, 7 OP-, 8 OP_OUT (out), 9 OP+, 10 PD_OUT (out), 11 VREF (out), 12 R, 13 C1, 14 C2, 15 VCO_OQ (out), 16 PD_IN
part B pins: 1 VCC (power), 4 GND (power)

## XR-2228
designator IC?, comment Operational MULTIPLIER
OC_FARNELL: unknown; OC_NEWARK: unknown
footprint DIL16
pins: 1 MULT@1 (out), 2 X_IN-, 3 X_IN+, 4 Y_IN+, 5 Y_IN-, 6 Y_GAIN@1, 7 Y_GAIN@2, 8 X_GAIN@1, 9 X_GAIN@2, 10 -VEE (power), 11 OP_OUT (out), 12 COMP, 13 OP+, 14 OP-, 15 +VCC (power), 16 MULT@2 (out)

## XR-2321D
designator IC?, comment V.23/V.21 MODEM
OC_FARNELL: unknown; OC_NEWARK: unknown
footprint SOP-24
pins: 1 AD0, 2 AD1, 3 AD2, 4 AD3, 5 NC, 6 MSCLK, 7 ALE, 8 !WR, 9 !RD, 10 !CS, 11 DGND (power), 12 RXD (out), 13 VSS (power), 14 RXC, 15 NC@1, 16 NC@2, 17 AGND (power), 18 NC@3, 19 TXC (out), 20 RCO, 21 RCI, 22 FREQ (out), 23 TXD, 24 VDD (power)

## XR-2321J
designator IC?, comment V.23/V.21 MODEM
OC_FARNELL: unknown; OC_NEWARK: unknown
footprint PLCC20
pins: 1 AD0, 2 AD1, 3 AD2, 4 AD3, 5 MSCLK, 6 ALE, 7 !WR, 8 !RD, 9 !CS, 10 DGND (power), 11 RXD (out), 12 VSS (power), 13 RXC, 14 AGND (power), 15 TXC (out), 16 RCO, 17 RCI, 18 FREQ (out), 19 TXD, 20 VDD (power)

## XR-2321P
designator IC?, comment V.23/V.21 MODEM
OC_FARNELL: unknown; OC_NEWARK: unknown
footprint DIL20
pins: 1 AD0, 2 AD1, 3 AD2, 4 AD3, 5 MSCLK, 6 ALE, 7 !WR, 8 !RD, 9 !CS, 10 DGND (power), 11 RXD (out), 12 VSS (power), 13 RXC, 14 AGND (power), 15 TXC (out), 16 RCO, 17 RCI, 18 FREQ (out), 19 TXD, 20 VDD (power)

## XR-2401J
designator IC?, comment MICROCONTROLLER
OC_FARNELL: unknown; OC_NEWARK: unknown
footprint PLCC44
pins: 1 GND (power), 2 PA1 (out), 3 PA0 (out), 4 MCPSEL, 5 !RS, 6 !INT, 7 CLK_OUT (out), 8 X1, 9 CLK_IN, 10 !BIO, 11 VDD (power), 12 GND@1 (power), 13 D8, 14 D9, 15 D10, 16 D11, 17 D12, 18 GND@2 (power), 19 D13, 20 D14, 21 D15, 22 D7, 23 D6, 24 D5, 25 D4, 26 D3, 27 D2, 28 GND@3 (power), 29 D1, 30 D0, 31 A11 (out), 32 A10 (out), 33 A9 (out), 34 VDD@1 (power), 35 !WEN (out), 36 !DEN (out), 37 !MEN (out), 38 A8 (out), 39 A7 (out), 40 A6 (out), 41 A5 (out), 42 A4 (out), 43 A3 (out), 44 PA2 (out)

## XR-2401P
designator IC?, comment MICROCONTROLLER
OC_FARNELL: unknown; OC_NEWARK: unknown
footprint DIL40
pins: 1 PA1 (out), 2 PA0 (out), 3 MCPSEL, 4 !RS, 5 !INT, 6 CLK_OUT (out), 7 X1, 8 CLK_IN, 9 !BIO, 10 GND (power), 11 D8, 12 D9, 13 D10, 14 D11, 15 D12, 16 D13, 17 D14, 18 D15, 19 D7, 20 D6, 21 D5, 22 D4, 23 D3, 24 D2, 25 D1, 26 D0, 27 PA11 (out), 28 PA10 (out), 29 PA9 (out), 30 VDD (power), 31 !WEN (out), 32 !DEN (out), 33 !MEN (out), 34 PA8 (out), 35 PA7 (out), 36 PA6 (out), 37 PA5 (out), 38 PA4 (out), 39 PA3 (out), 40 PA2 (out)

## XR-2401Q
designator IC?, comment MICROCONTROLLER
OC_FARNELL: unknown; OC_NEWARK: unknown
footprint QFP-44
pins: 1 CLK_OUT (out), 2 X1, 3 CLK_IN, 4 BIO, 5 NC, 6 GND (power), 7 D8, 8 D9, 9 D10, 10 D11, 11 D12, 12 NC@1, 13 D13, 14 D14, 15 D15, 16 D7, 17 D6, 18 D5, 19 D4, 20 D3, 21 D2, 22 D1, 23 NC@2, 24 D0, 25 A11 (out), 26 A10 (out), 27 A9 (out), 28 VPD (power), 29 WEB (out), 30 DENB (out), 31 MENB (out), 32 A8 (out), 33 A7 (out), 34 A6 (out), 35 A5 (out), 36 A4 (out), 37 A3 (out), 38 PA2 (out), 39 GND@1 (power), 40 PA1 (out), 41 PA0 (out), 42 MCPSEL, 43 RSB, 44 INTB

## XR-2402J
designator IC?, comment V.22bis high perfomance AFE
OC_FARNELL: unknown; OC_NEWARK: unknown
footprint PLCC52
pins: 1 VSS (power), 2 VDD (power), 3 NC, 4 TXCLK (out), 5 RX600 (out), 6 !RXCLK (out), 7 TX600 (out), 8 NC@1, 9 EXTXC, 10 TXD, 11 PRST, 12 !CS, 13 VSSD (power), 14 VDDD (power), 15 !RD, 16 ALE, 17 !WR, 18 HD0, 19 HD1, 20 HD2, 21 HD3, 22 HD4, 23 HD5, 24 HD6, 25 HD7, 26 RXD (out), 27 DGND (power), 28 TD0, 29 TD1, 30 TD2, 31 TD3, 32 TD4, 33 TD5, 34 TD6, 35 TD7, 36 CLK_IN, 37 !WEN, 38 PA0, 39 PA1, 40 PA2, 41 !DEN, 42 RS (out), 43 !INT (out), 44 NC@2, 45 TXC (out), 46 AGND (power), 47 C2, 48 C1 (out), 49 NC@3, 50 SPKO (out), 51 NC@4, 52 RXC

## XR-2402P
designator IC?, comment V.22bis high perfomance AFE
OC_FARNELL: unknown; OC_NEWARK: unknown
footprint DIL48
pins: 1 VDD (power), 2 TXCLK (out), 3 RX600 (out), 4 !RXCLK (out), 5 TX600 (out), 6 EXTXC, 7 TXD, 8 PRST, 9 !CS, 10 VSSD (power), 11 VDDD (power), 12 !RD, 13 ALE, 14 !WR, 15 HD0, 16 HD1, 17 HD2, 18 HD3, 19 HD4, 20 HD5, 21 HD6, 22 HD7, 23 RXD (out), 24 DGND (power), 25 TD0, 26 TD1, 27 TD2, 28 TD3, 29 TD4, 30 TD5, 31 TD6, 32 TD7, 33 CLK_IN, 34 !WEN, 35 PA0, 36 PA1, 37 PA2, 38 !DEN, 39 !RS (out), 40 !INT (out), 41 TXC (out), 42 AGND (power), 43 C2, 44 C1 (out), 45 SPKO (out), 46 RXC, 47 NC, 48 VSS (power)

## XR-2402Q
designator IC?, comment V.22bis high perfomance AFE
OC_FARNELL: unknown; OC_NEWARK: unknown
footprint QFP-52
pins: 1 NC, 2 EXTXC, 3 TXD, 4 PRST, 5 !CS, 6 VSSD (power), 7 VDDD (power), 8 !RD, 9 ALE, 10 !WR, 11 HD0, 12 HD1, 13 HD2, 14 HD3, 15 HD4, 16 HD5, 17 HD6, 18 HD7, 19 RXD (out), 20 DGND (power), 21 TD0, 22 TD1, 23 TD2, 24 TD3, 25 TD4, 26 TD5, 27 TD6, 28 TD7, 29 CLK_IN, 30 !WEN, 31 PA0, 32 PA1, 33 PA2, 34 !DEN, 35 RS (out), 36 !INT (out), 37 NC@1, 38 TXC (out), 39 AGND (power), 40 C2, 41 C1 (out), 42 NC@2, 43 SPKO (out), 44 NC@3, 45 RXC, 46 VSS (power), 47 VDD (power), 48 NC@4, 49 TXCLK (out), 50 RX600 (out), 51 !RXCLK (out), 52 TX600 (out)

## XR-2403J
designator IC?, comment Enhanced MNP-5 modem MICROCONTROLLER
OC_FARNELL: unknown; OC_NEWARK: unknown
footprint PLCC44
pins: 1 NC, 2 P1.0, 3 P1.1, 4 P1.2, 5 P1.3, 6 P1.4, 7 P1.5, 8 P1.6, 9 P1.7, 10 RST, 11 RXD (out), 12 NC@1, 13 TXD, 14 INT0, 15 INT1, 16 T0, 17 T1, 18 !WR, 19 !RD, 20 XTAL2, 21 XTAL1, 22 DGND (power), 23 NC@2, 24 P2.0, 25 P2.1, 26 P2.2, 27 P2.3, 28 P2.4, 29 P2.5, 30 P2.6, 31 P2.7, 32 !PSEN (out), 33 ALE (out), 34 NC@3, 35 !EA, 36 P0.7, 37 P0.6, 38 P0.5, 39 P0.4, 40 P0.3, 41 P0.2, 42 P0.1, 43 P0.0, 44 VDD (power)

## XR-2403P
designator IC?, comment Enhanced MNP-5 modem MICROCONTROLLER
OC_FARNELL: unknown; OC_NEWARK: unknown
footprint DIL40
pins: 1 P1.0, 2 P1.1, 3 P1.2, 4 P1.3, 5 P1.4, 6 P1.5, 7 P1.6, 8 P1.7, 9 RST, 10 RXD (out), 11 TXD, 12 !INT0, 13 !INT1, 14 T0, 15 T1, 16 !WR, 17 !RD, 18 XTAL2, 19 XTAL1, 20 DGND (power), 21 P2.0, 22 P2.1, 23 P2.2, 24 P2.3, 25 P2.4, 26 P2.5, 27 P2.6, 28 P2.7, 29 !PSEN (out), 30 ALE (out), 31 !EA, 32 P0.7, 33 P0.6, 34 P0.5, 35 P0.4, 36 P0.3, 37 P0.2, 38 P0.1, 39 P0.0, 40 VDD (power)

## XR-2403Q
designator IC?, comment Enhanced MNP-5 modem MICROCONTROLLER
OC_FARNELL: unknown; OC_NEWARK: unknown
footprint QFP-44
pins: 1 P1.5, 2 P1.6, 3 P1.7, 4 RST, 5 RXD (out), 6 NC, 7 TXD, 8 INT0, 9 INT1, 10 T0, 11 T1, 12 WR, 13 RD, 14 XTAL2, 15 XTAL1, 16 VSS (power), 17 NC@1, 18 P2.0, 19 P2.1, 20 P2.2, 21 P2.3, 22 P2.4, 23 P2.5, 24 P2.6, 25 P2.7, 26 PSEN (out), 27 ALE (out), 28 NC@2, 29 EA, 30 P0.7, 31 P0.6, 32 P0.5, 33 P0.4, 34 P0.3, 35 P0.2, 36 P0.1, 37 P0.0, 38 VDD (power), 39 NC@3, 40 P1.0, 41 P1.1, 42 P1.2, 43 P1.3, 44 P1.4

## XR-2442J
designator IC?, comment V.42 MNP-5 MICROCONTROLLER
OC_FARNELL: unknown; OC_NEWARK: unknown
footprint PLCC44
pins: 1 NC, 2 P1.0, 3 P1.1, 4 P1.2, 5 P1.3, 6 P1.4, 7 P1.5, 8 P1.6, 9 P1.7, 10 RST, 11 RXD (out), 12 NC@1, 13 TXD, 14 !INT0, 15 !INT1, 16 T0, 17 T1, 18 !WR, 19 !RD, 20 XTAL2, 21 XTAL1, 22 DGND (power), 23 NC@2, 24 P2.0, 25 P2.1, 26 P2.2, 27 P2.3, 28 P2.4, 29 P2.5, 30 P2.6, 31 P2.7, 32 !PSEN (out), 33 ALE (out), 34 NC@3, 35 !EA, 36 P0.7, 37 P0.6, 38 P0.5, 39 P0.4, 40 P0.3, 41 P0.2, 42 P0.1, 43 P0.0, 44 VDD (power)

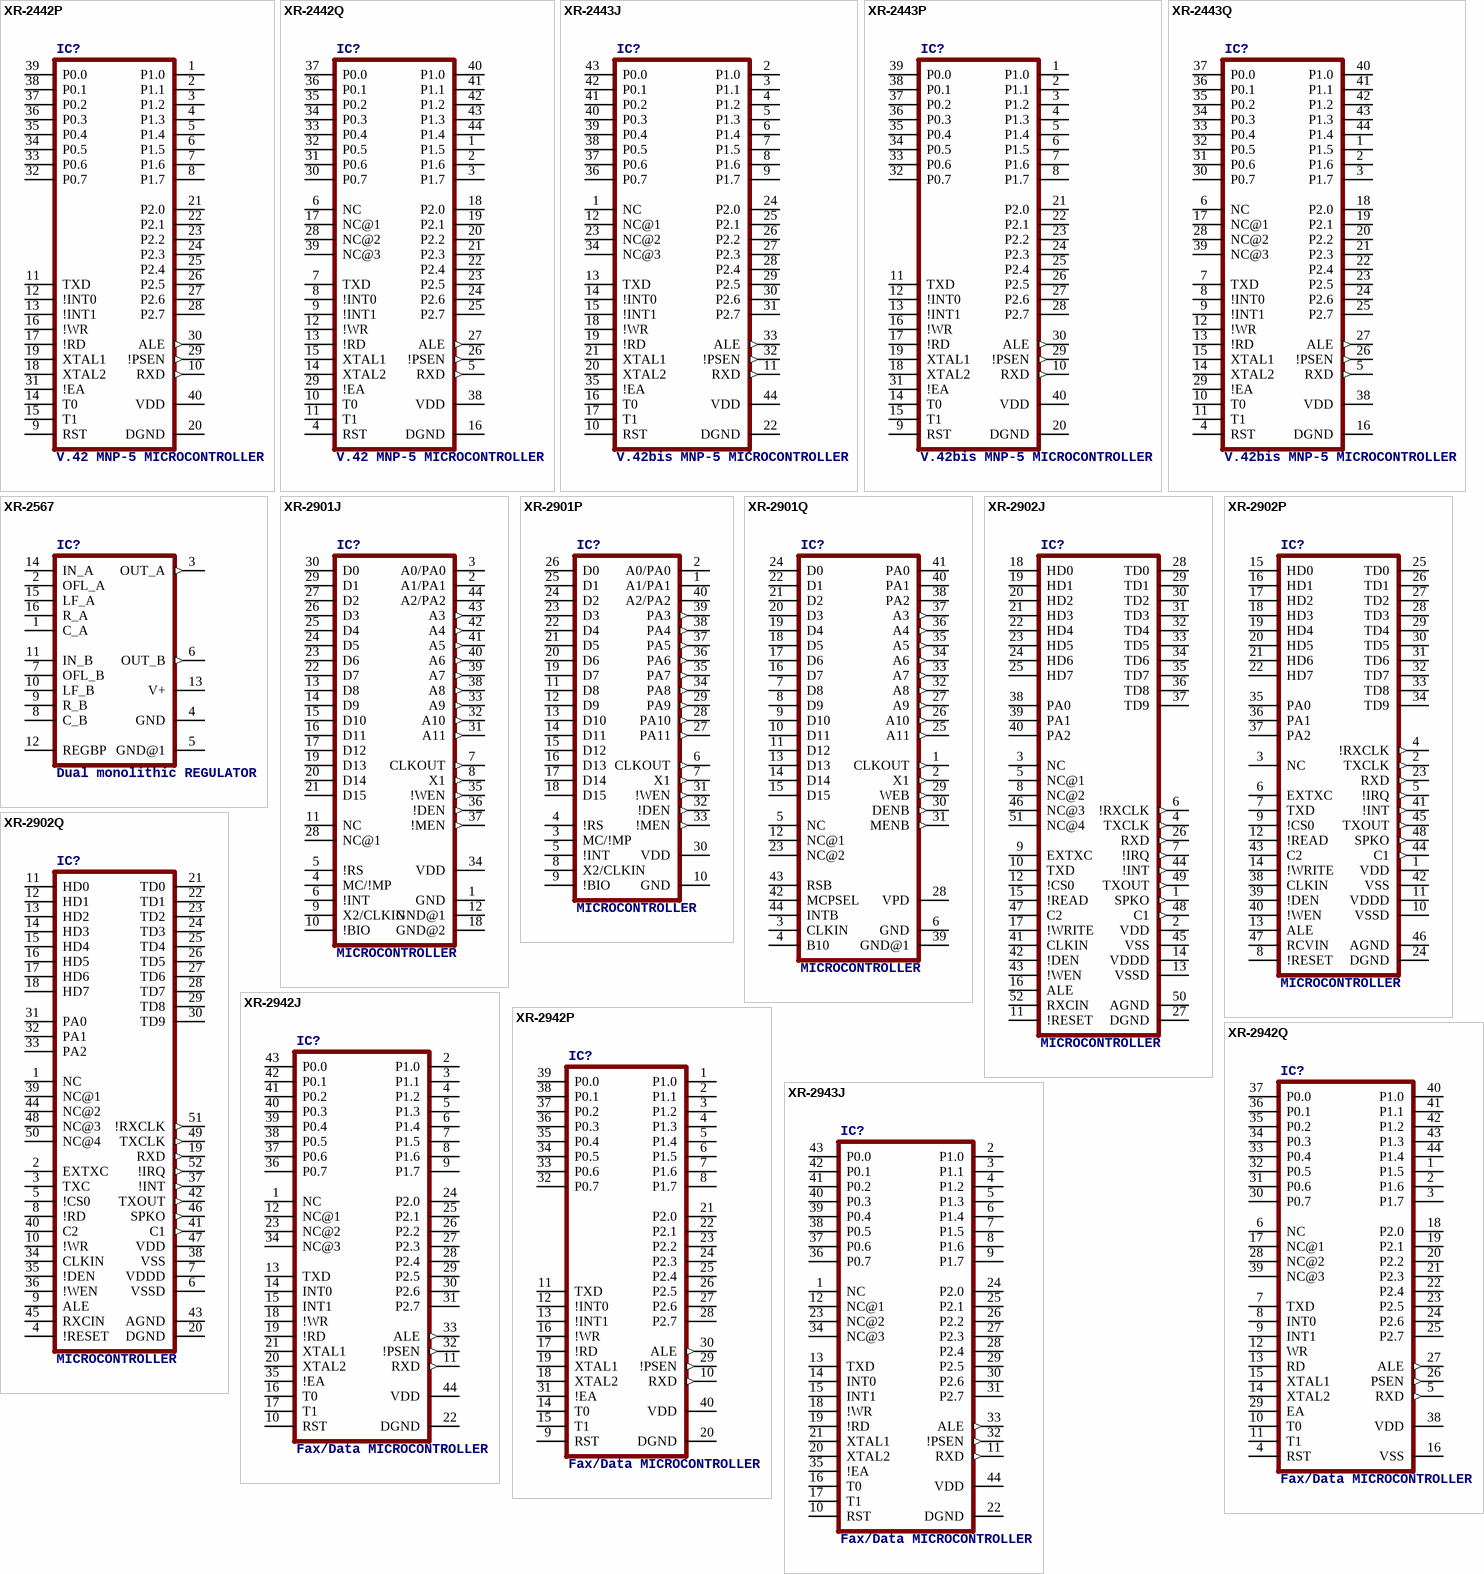
[diagram p4: symbols XR-2442P to XR-2943J]

## XR-2442P
designator IC?, comment V.42 MNP-5 MICROCONTROLLER
OC_FARNELL: unknown; OC_NEWARK: unknown
footprint DIL40
pins: 1 P1.0, 2 P1.1, 3 P1.2, 4 P1.3, 5 P1.4, 6 P1.5, 7 P1.6, 8 P1.7, 9 RST, 10 RXD (out), 11 TXD, 12 !INT0, 13 !INT1, 14 T0, 15 T1, 16 !WR, 17 !RD, 18 XTAL2, 19 XTAL1, 20 DGND (power), 21 P2.0, 22 P2.1, 23 P2.2, 24 P2.3, 25 P2.4, 26 P2.5, 27 P2.6, 28 P2.7, 29 !PSEN (out), 30 ALE (out), 31 !EA, 32 P0.7, 33 P0.6, 34 P0.5, 35 P0.4, 36 P0.3, 37 P0.2, 38 P0.1, 39 P0.0, 40 VDD (power)

## XR-2442Q
designator IC?, comment V.42 MNP-5 MICROCONTROLLER
OC_FARNELL: unknown; OC_NEWARK: unknown
footprint QFP-44
pins: 1 P1.5, 2 P1.6, 3 P1.7, 4 RST, 5 RXD (out), 6 NC, 7 TXD, 8 !INT0, 9 !INT1, 10 T0, 11 T1, 12 !WR, 13 !RD, 14 XTAL2, 15 XTAL1, 16 DGND (power), 17 NC@1, 18 P2.0, 19 P2.1, 20 P2.2, 21 P2.3, 22 P2.4, 23 P2.5, 24 P2.6, 25 P2.7, 26 !PSEN (out), 27 ALE (out), 28 NC@2, 29 !EA, 30 P0.7, 31 P0.6, 32 P0.5, 33 P0.4, 34 P0.3, 35 P0.2, 36 P0.1, 37 P0.0, 38 VDD (power), 39 NC@3, 40 P1.0, 41 P1.1, 42 P1.2, 43 P1.3, 44 P1.4

## XR-2443J
designator IC?, comment V.42bis MNP-5 MICROCONTROLLER
OC_FARNELL: unknown; OC_NEWARK: unknown
footprint PLCC44
pins: 1 NC, 2 P1.0, 3 P1.1, 4 P1.2, 5 P1.3, 6 P1.4, 7 P1.5, 8 P1.6, 9 P1.7, 10 RST, 11 RXD (out), 12 NC@1, 13 TXD, 14 !INT0, 15 !INT1, 16 T0, 17 T1, 18 !WR, 19 !RD, 20 XTAL2, 21 XTAL1, 22 DGND (power), 23 NC@2, 24 P2.0, 25 P2.1, 26 P2.2, 27 P2.3, 28 P2.4, 29 P2.5, 30 P2.6, 31 P2.7, 32 !PSEN (out), 33 ALE (out), 34 NC@3, 35 !EA, 36 P0.7, 37 P0.6, 38 P0.5, 39 P0.4, 40 P0.3, 41 P0.2, 42 P0.1, 43 P0.0, 44 VDD (power)

## XR-2443P
designator IC?, comment V.42bis MNP-5 MICROCONTROLLER
OC_FARNELL: unknown; OC_NEWARK: unknown
footprint DIL40
pins: 1 P1.0, 2 P1.1, 3 P1.2, 4 P1.3, 5 P1.4, 6 P1.5, 7 P1.6, 8 P1.7, 9 RST, 10 RXD (out), 11 TXD, 12 !INT0, 13 !INT1, 14 T0, 15 T1, 16 !WR, 17 !RD, 18 XTAL2, 19 XTAL1, 20 DGND (power), 21 P2.0, 22 P2.1, 23 P2.2, 24 P2.3, 25 P2.4, 26 P2.5, 27 P2.6, 28 P2.7, 29 !PSEN (out), 30 ALE (out), 31 !EA, 32 P0.7, 33 P0.6, 34 P0.5, 35 P0.4, 36 P0.3, 37 P0.2, 38 P0.1, 39 P0.0, 40 VDD (power)

## XR-2443Q
designator IC?, comment V.42bis MNP-5 MICROCONTROLLER
OC_FARNELL: unknown; OC_NEWARK: unknown
footprint QFP-44
pins: 1 P1.5, 2 P1.6, 3 P1.7, 4 RST, 5 RXD (out), 6 NC, 7 TXD, 8 !INT0, 9 !INT1, 10 T0, 11 T1, 12 !WR, 13 !RD, 14 XTAL2, 15 XTAL1, 16 DGND (power), 17 NC@1, 18 P2.0, 19 P2.1, 20 P2.2, 21 P2.3, 22 P2.4, 23 P2.5, 24 P2.6, 25 P2.7, 26 !PSEN (out), 27 ALE (out), 28 NC@2, 29 !EA, 30 P0.7, 31 P0.6, 32 P0.5, 33 P0.4, 34 P0.3, 35 P0.2, 36 P0.1, 37 P0.0, 38 VDD (power), 39 NC@3, 40 P1.0, 41 P1.1, 42 P1.2, 43 P1.3, 44 P1.4

## XR-2567
designator IC?, comment Dual monolithic REGULATOR
OC_FARNELL: unknown; OC_NEWARK: unknown
footprint DIL16
pins: 1 C_A, 2 OFL_A, 3 OUT_A (out), 4 GND (power), 5 GND@1 (power), 6 OUT_B (out), 7 OFL_B, 8 C_B, 9 R_B, 10 LF_B, 11 IN_B, 12 REGBP, 13 V+ (power), 14 IN_A, 15 LF_A, 16 R_A

## XR-2901J
designator IC?, comment MICROCONTROLLER
OC_FARNELL: unknown; OC_NEWARK: unknown
footprint PLCC44
pins: 1 GND (power), 2 A1/PA1, 3 A0/PA0, 4 MC/!MP, 5 !RS, 6 !INT, 7 CLKOUT (out), 8 X1 (out), 9 X2/CLKIN, 10 !BIO, 11 NC, 12 GND@1 (power), 13 D8, 14 D9, 15 D10, 16 D11, 17 D12, 18 GND@2 (power), 19 D13, 20 D14, 21 D15, 22 D7, 23 D6, 24 D5, 25 D4, 26 D3, 27 D2, 28 NC@1, 29 D1, 30 D0, 31 A11 (out), 32 A10 (out), 33 A9 (out), 34 VDD (power), 35 !WEN (out), 36 !DEN (out), 37 !MEN (out), 38 A8 (out), 39 A7 (out), 40 A6 (out), 41 A5 (out), 42 A4 (out), 43 A3 (out), 44 A2/PA2

## XR-2901P
designator IC?, comment MICROCONTROLLER
OC_FARNELL: unknown; OC_NEWARK: unknown
footprint DIL40
pins: 1 A1/PA1, 2 A0/PA0, 3 MC/!MP, 4 !RS, 5 !INT, 6 CLKOUT (out), 7 X1 (out), 8 X2/CLKIN, 9 !BIO, 10 GND (power), 11 D8, 12 D9, 13 D10, 14 D11, 15 D12, 16 D13, 17 D14, 18 D15, 19 D7, 20 D6, 21 D5, 22 D4, 23 D3, 24 D2, 25 D1, 26 D0, 27 PA11 (out), 28 PA10 (out), 29 PA9 (out), 30 VDD (power), 31 !WEN (out), 32 !DEN (out), 33 !MEN (out), 34 PA8 (out), 35 PA7 (out), 36 PA6 (out), 37 PA5 (out), 38 PA4 (out), 39 PA3 (out), 40 A2/PA2

## XR-2901Q
designator IC?, comment MICROCONTROLLER
OC_FARNELL: unknown; OC_NEWARK: unknown
footprint QFP-44
pins: 1 CLKOUT (out), 2 X1 (out), 3 CLKIN, 4 B10, 5 NC, 6 GND (power), 7 D8, 8 D9, 9 D10, 10 D11, 11 D12, 12 NC@1, 13 D13, 14 D14, 15 D15, 16 D7, 17 D6, 18 D5, 19 D4, 20 D3, 21 D2, 22 D1, 23 NC@2, 24 D0, 25 A11 (out), 26 A10 (out), 27 A9 (out), 28 VPD (power), 29 WEB (out), 30 DENB (out), 31 MENB (out), 32 A8 (out), 33 A7 (out), 34 A6 (out), 35 A5 (out), 36 A4 (out), 37 A3 (out), 38 PA2, 39 GND@1 (power), 40 PA1, 41 PA0, 42 MCPSEL, 43 RSB, 44 INTB

## XR-2902J
designator IC?, comment MICROCONTROLLER
OC_FARNELL: unknown; OC_NEWARK: unknown
footprint PLCC52
pins: 1 SPKO (out), 2 VDD (power), 3 NC, 4 TXCLK (out), 5 NC@1, 6 !RXCLK (out), 7 !IRQ (out), 8 NC@2, 9 EXTXC, 10 TXD, 11 !RESET, 12 !CS0, 13 VSSD (power), 14 VDDD (power), 15 !READ, 16 ALE, 17 !WRITE, 18 HD0, 19 HD1, 20 HD2, 21 HD3, 22 HD4, 23 HD5, 24 HD6, 25 HD7, 26 RXD (out), 27 DGND (power), 28 TD0, 29 TD1, 30 TD2, 31 TD3, 32 TD4, 33 TD5, 34 TD6, 35 TD7, 36 TD8, 37 TD9, 38 PA0, 39 PA1, 40 PA2, 41 CLKIN, 42 !DEN, 43 !WEN, 44 !INT (out), 45 VSS (power), 46 NC@3, 47 C2, 48 C1 (out), 49 TXOUT (out), 50 AGND (power), 51 NC@4, 52 RXCIN

## XR-2902P
designator IC?, comment MICROCONTROLLER
OC_FARNELL: unknown; OC_NEWARK: unknown
footprint DIL48
pins: 1 VDD (power), 2 TXCLK (out), 3 NC, 4 !RXCLK (out), 5 !IRQ (out), 6 EXTXC, 7 TXD, 8 !RESET, 9 !CS0, 10 VSSD (power), 11 VDDD (power), 12 !READ, 13 ALE, 14 !WRITE, 15 HD0, 16 HD1, 17 HD2, 18 HD3, 19 HD4, 20 HD5, 21 HD6, 22 HD7, 23 RXD (out), 24 DGND (power), 25 TD0, 26 TD1, 27 TD2, 28 TD3, 29 TD4, 30 TD5, 31 TD6, 32 TD7, 33 TD8, 34 TD9, 35 PA0, 36 PA1, 37 PA2, 38 CLKIN, 39 !DEN, 40 !WEN, 41 !INT (out), 42 VSS (power), 43 C2, 44 C1 (out), 45 TXOUT (out), 46 AGND (power), 47 RCVIN, 48 SPKO (out)

## XR-2902Q
designator IC?, comment MICROCONTROLLER
OC_FARNELL: unknown; OC_NEWARK: unknown
footprint QFP-52
pins: 1 NC, 2 EXTXC, 3 TXC, 4 !RESET, 5 !CS0, 6 VSSD (power), 7 VDDD (power), 8 !RD, 9 ALE, 10 !WR, 11 HD0, 12 HD1, 13 HD2, 14 HD3, 15 HD4, 16 HD5, 17 HD6, 18 HD7, 19 RXD (out), 20 DGND (power), 21 TD0, 22 TD1, 23 TD2, 24 TD3, 25 TD4, 26 TD5, 27 TD6, 28 TD7, 29 TD8, 30 TD9, 31 PA0, 32 PA1, 33 PA2, 34 CLKIN, 35 !DEN, 36 !WEN, 37 !INT (out), 38 VSS (power), 39 NC@1, 40 C2, 41 C1 (out), 42 TXOUT (out), 43 AGND (power), 44 NC@2, 45 RXCIN, 46 SPKO (out), 47 VDD (power), 48 NC@3, 49 TXCLK (out), 50 NC@4, 51 !RXCLK (out), 52 !IRQ (out)

## XR-2942J
designator IC?, comment Fax/Data MICROCONTROLLER
OC_FARNELL: unknown; OC_NEWARK: unknown
footprint PLCC44
pins: 1 NC, 2 P1.0, 3 P1.1, 4 P1.2, 5 P1.3, 6 P1.4, 7 P1.5, 8 P1.6, 9 P1.7, 10 RST, 11 RXD (out), 12 NC@1, 13 TXD, 14 INT0, 15 INT1, 16 T0, 17 T1, 18 !WR, 19 !RD, 20 XTAL2, 21 XTAL1, 22 DGND (power), 23 NC@2, 24 P2.0, 25 P2.1, 26 P2.2, 27 P2.3, 28 P2.4, 29 P2.5, 30 P2.6, 31 P2.7, 32 !PSEN (out), 33 ALE (out), 34 NC@3, 35 !EA, 36 P0.7, 37 P0.6, 38 P0.5, 39 P0.4, 40 P0.3, 41 P0.2, 42 P0.1, 43 P0.0, 44 VDD (power)

## XR-2942P
designator IC?, comment Fax/Data MICROCONTROLLER
OC_FARNELL: unknown; OC_NEWARK: unknown
footprint DIL40
pins: 1 P1.0, 2 P1.1, 3 P1.2, 4 P1.3, 5 P1.4, 6 P1.5, 7 P1.6, 8 P1.7, 9 RST, 10 RXD (out), 11 TXD, 12 !INT0, 13 !INT1, 14 T0, 15 T1, 16 !WR, 17 !RD, 18 XTAL2, 19 XTAL1, 20 DGND (power), 21 P2.0, 22 P2.1, 23 P2.2, 24 P2.3, 25 P2.4, 26 P2.5, 27 P2.6, 28 P2.7, 29 !PSEN (out), 30 ALE (out), 31 !EA, 32 P0.7, 33 P0.6, 34 P0.5, 35 P0.4, 36 P0.3, 37 P0.2, 38 P0.1, 39 P0.0, 40 VDD (power)

## XR-2942Q
designator IC?, comment Fax/Data MICROCONTROLLER
OC_FARNELL: unknown; OC_NEWARK: unknown
footprint QFP-44
pins: 1 P1.5, 2 P1.6, 3 P1.7, 4 RST, 5 RXD (out), 6 NC, 7 TXD, 8 INT0, 9 INT1, 10 T0, 11 T1, 12 WR, 13 RD, 14 XTAL2, 15 XTAL1, 16 VSS (power), 17 NC@1, 18 P2.0, 19 P2.1, 20 P2.2, 21 P2.3, 22 P2.4, 23 P2.5, 24 P2.6, 25 P2.7, 26 PSEN (out), 27 ALE (out), 28 NC@2, 29 EA, 30 P0.7, 31 P0.6, 32 P0.5, 33 P0.4, 34 P0.3, 35 P0.2, 36 P0.1, 37 P0.0, 38 VDD (power), 39 NC@3, 40 P1.0, 41 P1.1, 42 P1.2, 43 P1.3, 44 P1.4

## XR-2943J
designator IC?, comment Fax/Data MICROCONTROLLER
OC_FARNELL: unknown; OC_NEWARK: unknown
footprint PLCC44
pins: 1 NC, 2 P1.0, 3 P1.1, 4 P1.2, 5 P1.3, 6 P1.4, 7 P1.5, 8 P1.6, 9 P1.7, 10 RST, 11 RXD (out), 12 NC@1, 13 TXD, 14 INT0, 15 INT1, 16 T0, 17 T1, 18 !WR, 19 !RD, 20 XTAL2, 21 XTAL1, 22 DGND (power), 23 NC@2, 24 P2.0, 25 P2.1, 26 P2.2, 27 P2.3, 28 P2.4, 29 P2.5, 30 P2.6, 31 P2.7, 32 !PSEN (out), 33 ALE (out), 34 NC@3, 35 !EA, 36 P0.7, 37 P0.6, 38 P0.5, 39 P0.4, 40 P0.3, 41 P0.2, 42 P0.1, 43 P0.0, 44 VDD (power)

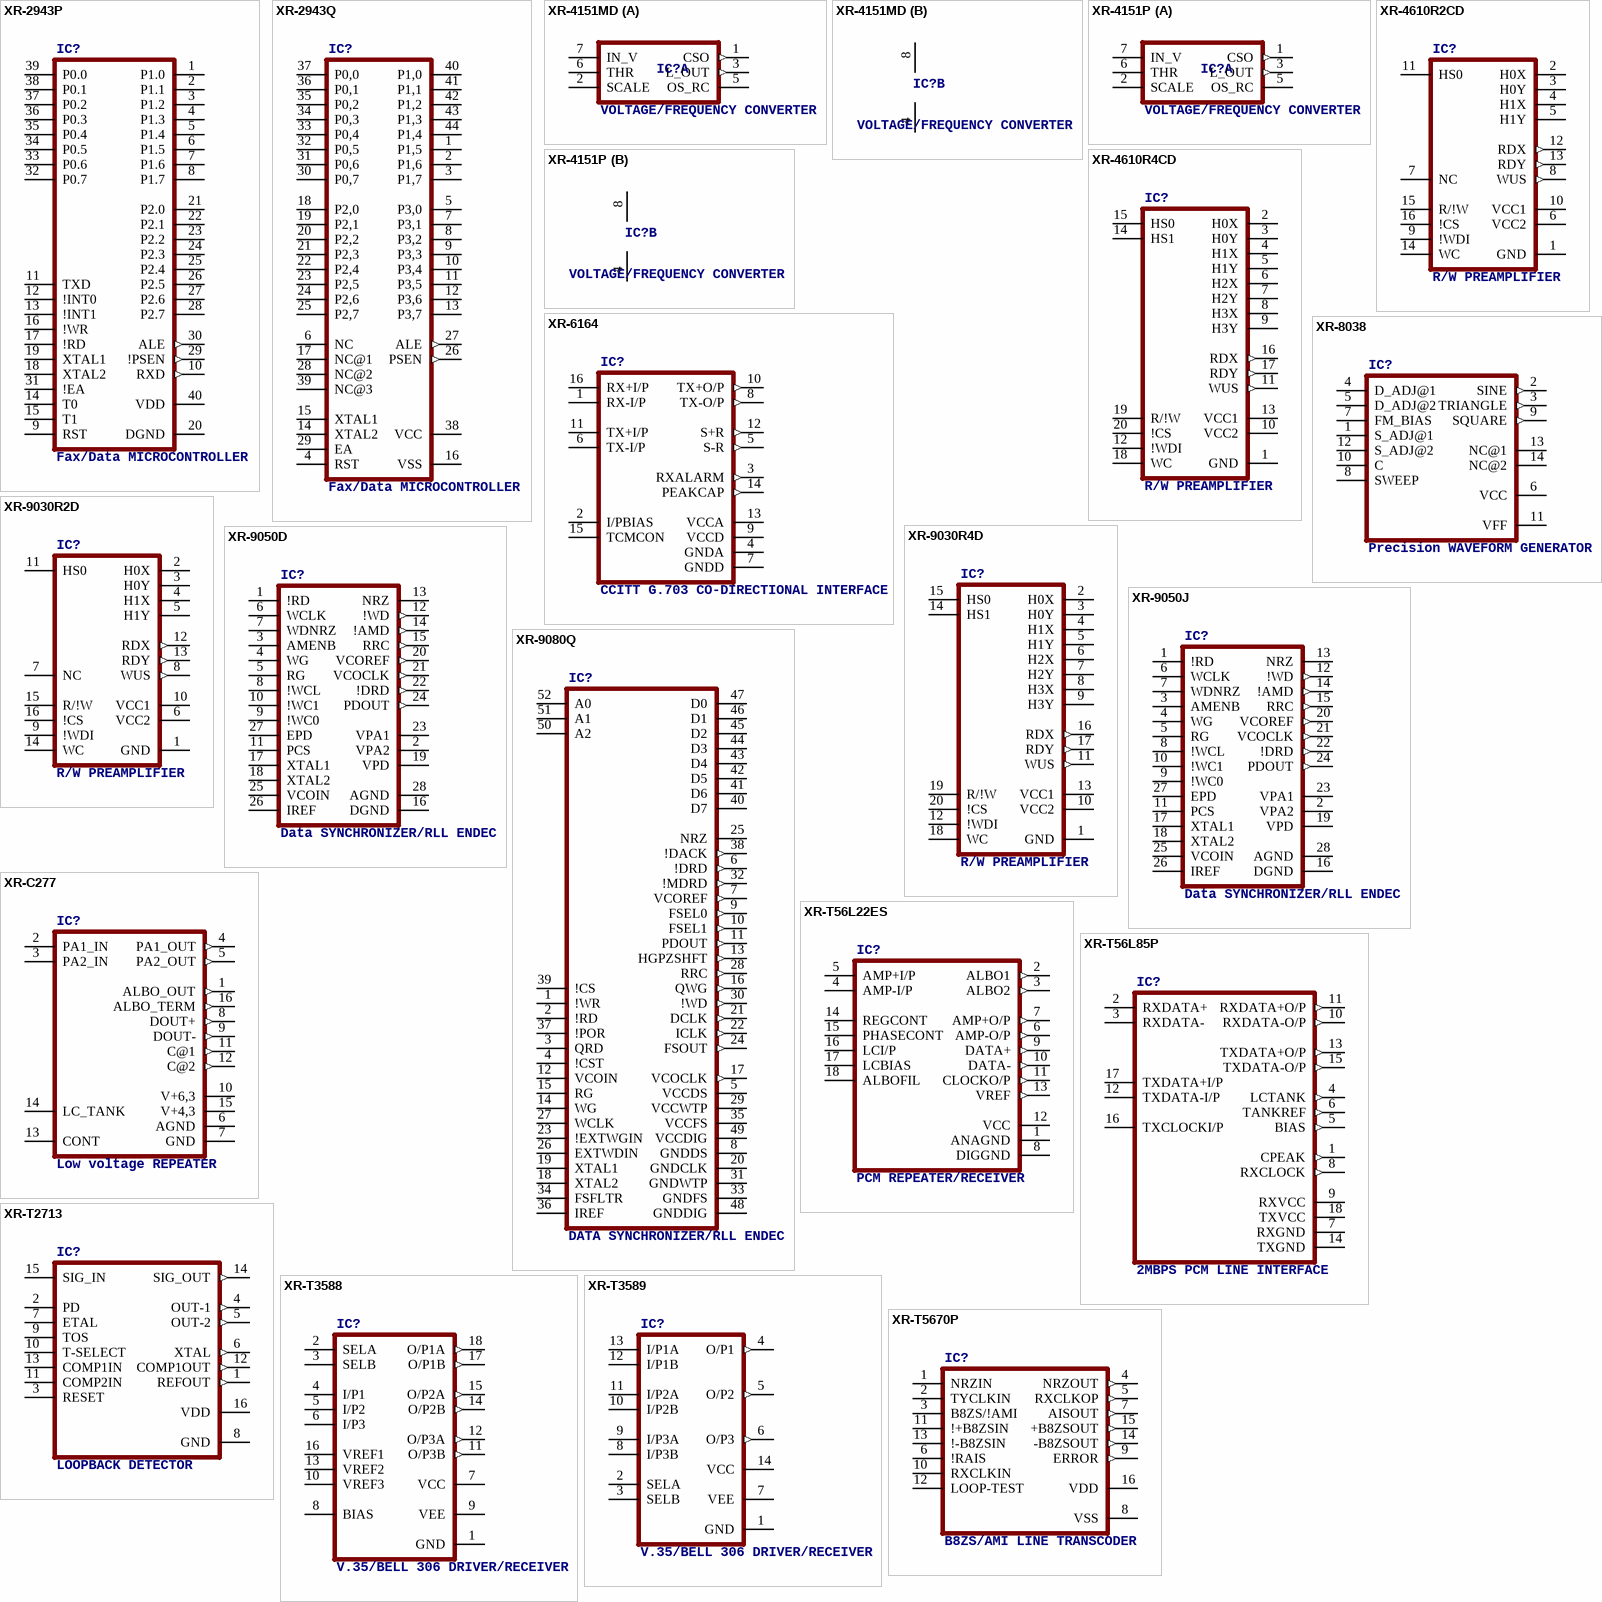
[diagram p5: symbols XR-2943P to XR-T5670P]

## XR-2943P
designator IC?, comment Fax/Data MICROCONTROLLER
OC_FARNELL: unknown; OC_NEWARK: unknown
footprint DIL40
pins: 1 P1.0, 2 P1.1, 3 P1.2, 4 P1.3, 5 P1.4, 6 P1.5, 7 P1.6, 8 P1.7, 9 RST, 10 RXD (out), 11 TXD, 12 !INT0, 13 !INT1, 14 T0, 15 T1, 16 !WR, 17 !RD, 18 XTAL2, 19 XTAL1, 20 DGND (power), 21 P2.0, 22 P2.1, 23 P2.2, 24 P2.3, 25 P2.4, 26 P2.5, 27 P2.6, 28 P2.7, 29 !PSEN (out), 30 ALE (out), 31 !EA, 32 P0.7, 33 P0.6, 34 P0.5, 35 P0.4, 36 P0.3, 37 P0.2, 38 P0.1, 39 P0.0, 40 VDD (power)

## XR-2943Q
designator IC?, comment Fax/Data MICROCONTROLLER
OC_FARNELL: unknown; OC_NEWARK: unknown
footprint QFP-44
pins: 1 P1,5, 2 P1,6, 3 P1,7, 4 RST, 5 P3,0, 6 NC, 7 P3,1, 8 P3,2, 9 P3,3, 10 P3,4, 11 P3,5, 12 P3,6, 13 P3,7, 14 XTAL2, 15 XTAL1, 16 VSS (power), 17 NC@1, 18 P2,0, 19 P2,1, 20 P2,2, 21 P2,3, 22 P2,4, 23 P2,5, 24 P2,6, 25 P2,7, 26 PSEN (out), 27 ALE (out), 28 NC@2, 29 EA, 30 P0,7, 31 P0,6, 32 P0,5, 33 P0,4, 34 P0,3, 35 P0,2, 36 P0,1, 37 P0,0, 38 VCC (power), 39 NC@3, 40 P1,0, 41 P1,1, 42 P1,2, 43 P1,3, 44 P1,4

## XR-4151MD
designator IC?, comment VOLTAGE/FREQUENCY CONVERTER
OC_FARNELL: unknown; OC_NEWARK: unknown
footprint SO-08
part A pins: 1 CSO (out), 2 SCALE, 3 L_OUT (out), 5 OS_RC, 6 THR, 7 IN_V
part B pins: 4 GND (power), 8 VCC (power)

## XR-4151P
designator IC?, comment VOLTAGE/FREQUENCY CONVERTER
MPN: XR4151CP-F; OC_FARNELL: 1798672; OC_NEWARK: 24R2372
footprint DIL08
part A pins: 1 CSO (out), 2 SCALE, 3 L_OUT (out), 5 OS_RC, 6 THR, 7 IN_V
part B pins: 4 GND (power), 8 VCC (power)

## XR-4610R2CD
designator IC?, comment R/W PREAMPLIFIER
OC_FARNELL: unknown; OC_NEWARK: unknown
footprint SOP-16
pins: 1 GND (power), 2 H0X, 3 H0Y, 4 H1X, 5 H1Y, 6 VCC2 (power), 7 NC, 8 WUS (out), 9 !WDI, 10 VCC1 (power), 11 HS0, 12 RDX (out), 13 RDY (out), 14 WC, 15 R/!W, 16 !CS

## XR-4610R4CD
designator IC?, comment R/W PREAMPLIFIER
OC_FARNELL: unknown; OC_NEWARK: unknown
footprint SOP-20
pins: 1 GND (power), 2 H0X, 3 H0Y, 4 H1X, 5 H1Y, 6 H2X, 7 H2Y, 8 H3X, 9 H3Y, 10 VCC2 (power), 11 WUS (out), 12 !WDI, 13 VCC1 (power), 14 HS1, 15 HS0, 16 RDX (out), 17 RDY (out), 18 WC, 19 R/!W, 20 !CS

## XR-6164
designator IC?, comment CCITT G.703 CO-DIRECTIONAL INTERFACE
OC_FARNELL: unknown; OC_NEWARK: unknown
footprint DIL16
pins: 1 RX-I/P, 2 I/PBIAS, 3 RXALARM (out), 4 GNDA (power), 5 S-R (out), 6 TX-I/P, 7 GNDD (power), 8 TX-O/P (out), 9 VCCD (power), 10 TX+O/P (out), 11 TX+I/P, 12 S+R (out), 13 VCCA (power), 14 PEAKCAP (out), 15 TCMCON, 16 RX+I/P

## XR-8038
designator IC?, comment Precision WAVEFORM GENERATOR
OC_FARNELL: unknown; OC_NEWARK: unknown
footprint DIL14
pins: 1 S_ADJ@1, 2 SINE (out), 3 TRIANGLE (out), 4 D_ADJ@1, 5 D_ADJ@2, 6 VCC (power), 7 FM_BIAS, 8 SWEEP, 9 SQUARE (out), 10 C, 11 VFF (power), 12 S_ADJ@2, 13 NC@1, 14 NC@2

## XR-9030R2D
designator IC?, comment R/W PREAMPLIFIER
OC_FARNELL: unknown; OC_NEWARK: unknown
footprint SOP-16
pins: 1 GND (power), 2 H0X, 3 H0Y, 4 H1X, 5 H1Y, 6 VCC2 (power), 7 NC, 8 WUS (out), 9 !WDI, 10 VCC1 (power), 11 HS0, 12 RDX (out), 13 RDY (out), 14 WC, 15 R/!W, 16 !CS

## XR-9030R4D
designator IC?, comment R/W PREAMPLIFIER
OC_FARNELL: unknown; OC_NEWARK: unknown
footprint SOP-20
pins: 1 GND (power), 2 H0X, 3 H0Y, 4 H1X, 5 H1Y, 6 H2X, 7 H2Y, 8 H3X, 9 H3Y, 10 VCC2 (power), 11 WUS (out), 12 !WDI, 13 VCC1 (power), 14 HS1, 15 HS0, 16 RDX (out), 17 RDY (out), 18 WC, 19 R/!W, 20 !CS

## XR-9050D
designator IC?, comment Data SYNCHRONIZER/RLL ENDEC
OC_FARNELL: unknown; OC_NEWARK: unknown
footprint SO-28LD
pins: 1 !RD, 2 VPA2 (power), 3 AMENB, 4 WG, 5 RG, 6 WCLK, 7 WDNRZ, 8 !WCL, 9 !WC0, 10 !WC1, 11 PCS, 12 !WD (out), 13 NRZ, 14 !AMD (out), 15 RRC (out), 16 DGND (power), 17 XTAL1, 18 XTAL2, 19 VPD (power), 20 VCOREF (out), 21 VCOCLK (out), 22 !DRD (out), 23 VPA1 (power), 24 PDOUT (out), 25 VCOIN, 26 IREF, 27 EPD, 28 AGND (power)

## XR-9050J
designator IC?, comment Data SYNCHRONIZER/RLL ENDEC
OC_FARNELL: unknown; OC_NEWARK: unknown
footprint PLCC28
pins: 1 !RD, 2 VPA2 (power), 3 AMENB, 4 WG, 5 RG, 6 WCLK, 7 WDNRZ, 8 !WCL, 9 !WC0, 10 !WC1, 11 PCS, 12 !WD (out), 13 NRZ, 14 !AMD (out), 15 RRC (out), 16 DGND (power), 17 XTAL1, 18 XTAL2, 19 VPD (power), 20 VCOREF (out), 21 VCOCLK (out), 22 !DRD (out), 23 VPA1 (power), 24 PDOUT (out), 25 VCOIN, 26 IREF, 27 EPD, 28 AGND (power)

## XR-9080Q
designator IC?, comment DATA SYNCHRONIZER/RLL ENDEC
OC_FARNELL: unknown; OC_NEWARK: unknown
footprint QFP-52
pins: 1 !WR, 2 !RD, 3 QRD, 4 !CST, 5 VCCDS (power), 6 !DRD (out), 7 VCOREF (out), 8 GNDDS (power), 9 FSEL0 (out), 10 FSEL1 (out), 11 PDOUT (out), 12 VCOIN, 13 HGPZSHFT (out), 14 WG, 15 RG, 16 QWG (out), 17 VCOCLK (out), 18 XTAL2, 19 XTAL1, 20 GNDCLK (power), 21 DCLK (out), 22 ICLK (out), 23 !EXTWGIN, 24 FSOUT (out), 25 NRZ, 26 EXTWDIN, 27 WCLK, 28 RRC (out), 29 VCCWTP (power), 30 !WD (out), 31 GNDWTP (power), 32 !MDRD (out), 33 GNDFS (power), 34 FSFLTR, 35 VCCFS (power), 36 IREF, 37 !POR, 38 !DACK (out), 39 !CS, 40 D7, 41 D6, 42 D5, 43 D4, 44 D3, 45 D2, 46 D1, 47 D0, 48 GNDDIG (power), 49 VCCDIG (power), 50 A2, 51 A1, 52 A0

## XR-C277
designator IC?, comment Low voltage REPEATER
OC_FARNELL: unknown; OC_NEWARK: unknown
footprint DIL16
pins: 1 ALBO_OUT (out), 2 PA1_IN, 3 PA2_IN, 4 PA1_OUT (out), 5 PA2_OUT (out), 6 AGND (power), 7 GND (power), 8 DOUT+ (out), 9 DOUT- (out), 10 V+6,3 (power), 11 C@1 (out), 12 C@2 (out), 13 CONT, 14 LC_TANK, 15 V+4,3 (power), 16 ALBO_TERM (out)

## XR-T56L22ES
designator IC?, comment PCM REPEATER/RECEIVER
OC_FARNELL: unknown; OC_NEWARK: unknown
footprint DIL18
pins: 1 ANAGND (power), 2 ALBO1 (out), 3 ALBO2 (out), 4 AMP-I/P, 5 AMP+I/P, 6 AMP-O/P (out), 7 AMP+O/P (out), 8 DIGGND (power), 9 DATA+ (out), 10 DATA- (out), 11 CLOCKO/P (out), 12 VCC (power), 13 VREF (out), 14 REGCONT, 15 PHASECONT, 16 LCI/P, 17 LCBIAS, 18 ALBOFIL

## XR-T56L85P
designator IC?, comment 2MBPS PCM LINE INTERFACE
OC_FARNELL: unknown; OC_NEWARK: unknown
footprint DIL18
pins: 1 CPEAK (out), 2 RXDATA+, 3 RXDATA-, 4 LCTANK (out), 5 BIAS (out), 6 TANKREF (out), 7 RXGND (power), 8 RXCLOCK (out), 9 RXVCC (power), 10 RXDATA-O/P (out), 11 RXDATA+O/P (out), 12 TXDATA-I/P, 13 TXDATA+O/P (out), 14 TXGND (power), 15 TXDATA-O/P (out), 16 TXCLOCKI/P, 17 TXDATA+I/P, 18 TXVCC (power)

## XR-T2713
designator IC?, comment LOOPBACK DETECTOR
OC_FARNELL: unknown; OC_NEWARK: unknown
footprint DIL16
pins: 1 REFOUT (out), 2 PD, 3 RESET, 4 OUT-1 (out), 5 OUT-2 (out), 6 XTAL (out), 7 ETAL, 8 GND (power), 9 TOS, 10 T-SELECT, 11 COMP2IN, 12 COMP1OUT (out), 13 COMP1IN, 14 SIG_OUT (out), 15 SIG_IN, 16 VDD (power)

## XR-T3588
designator IC?, comment V.35/BELL 306 DRIVER/RECEIVER
OC_FARNELL: unknown; OC_NEWARK: unknown
footprint DIL18
pins: 1 GND (power), 2 SELA, 3 SELB, 4 I/P1, 5 I/P2, 6 I/P3, 7 VCC (power), 8 BIAS, 9 VEE (power), 10 VREF3, 11 O/P3B (out), 12 O/P3A (out), 13 VREF2, 14 O/P2B (out), 15 O/P2A (out), 16 VREF1, 17 O/P1B (out), 18 O/P1A (out)

## XR-T3589
designator IC?, comment V.35/BELL 306 DRIVER/RECEIVER
OC_FARNELL: unknown; OC_NEWARK: unknown
footprint DIL14
pins: 1 GND (power), 2 SELA, 3 SELB, 4 O/P1 (out), 5 O/P2 (out), 6 O/P3 (out), 7 VEE (power), 8 I/P3B, 9 I/P3A, 10 I/P2B, 11 I/P2A, 12 I/P1B, 13 I/P1A, 14 VCC (power)

## XR-T5670P
designator IC?, comment B8ZS/AMI LINE TRANSCODER
OC_FARNELL: unknown; OC_NEWARK: unknown
footprint DIL16
pins: 1 NRZIN, 2 TYCLKIN, 3 B8ZS/!AMI, 4 NRZOUT (out), 5 RXCLKOP (out), 6 !RAIS, 7 AISOUT (out), 8 VSS (power), 9 ERROR (out), 10 RXCLKIN, 11 !+B8ZSIN, 12 LOOP-TEST, 13 !-B8ZSIN, 14 -B8ZSOUT (out), 15 +B8ZSOUT (out), 16 VDD (power)

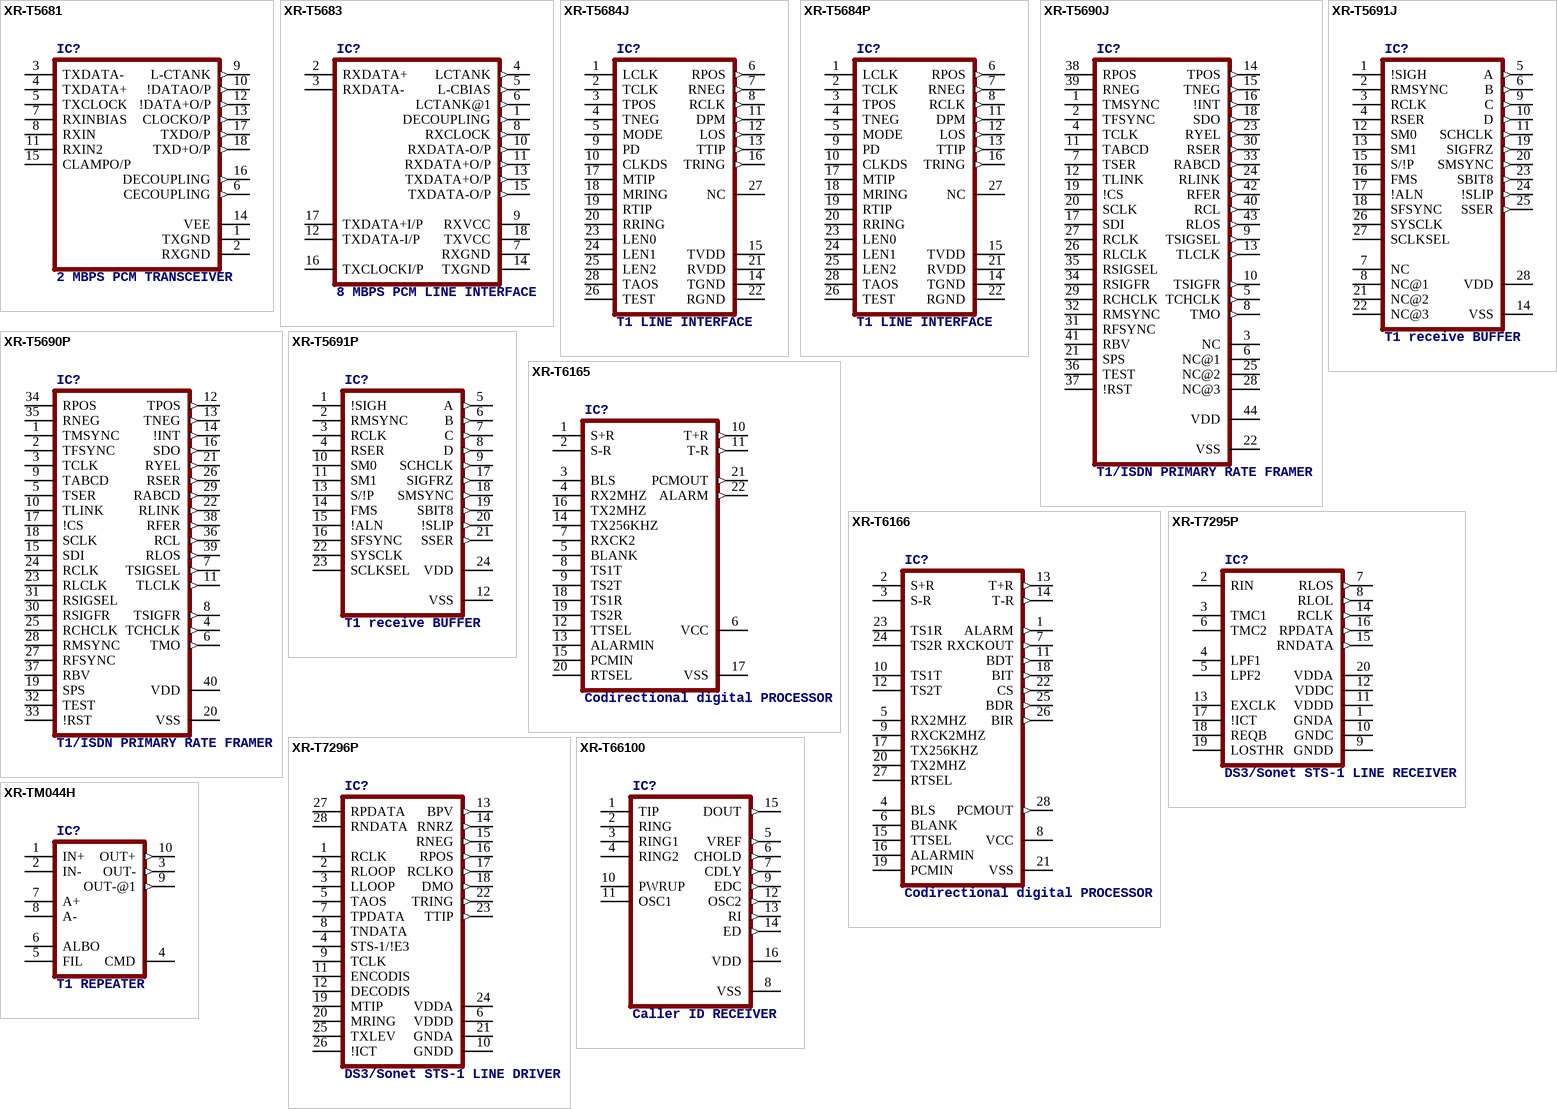
[diagram p6: symbols XR-T5681 to XR-TM044H]

## XR-T5681
designator IC?, comment 2 MBPS PCM TRANSCEIVER
OC_FARNELL: unknown; OC_NEWARK: unknown
footprint DIL18
pins: 1 TXGND (power), 2 RXGND (power), 3 TXDATA-, 4 TXDATA+, 5 TXCLOCK, 6 CECOUPLING (out), 7 RXINBIAS, 8 RXIN, 9 L-CTANK (out), 10 !DATAO/P (out), 11 RXIN2, 12 !DATA+O/P (out), 13 CLOCKO/P (out), 14 VEE (power), 15 CLAMPO/P, 16 DECOUPLING (out), 17 TXDO/P (out), 18 TXD+O/P (out)

## XR-T5683
designator IC?, comment 8 MBPS PCM LINE INTERFACE
OC_FARNELL: unknown; OC_NEWARK: unknown
footprint DIL18
pins: 1 DECOUPLING (out), 2 RXDATA+, 3 RXDATA-, 4 LCTANK (out), 5 L-CBIAS (out), 6 LCTANK@1 (out), 7 RXGND (power), 8 RXCLOCK (out), 9 RXVCC (power), 10 RXDATA-O/P (out), 11 RXDATA+O/P (out), 12 TXDATA-I/P, 13 TXDATA+O/P (out), 14 TXGND (power), 15 TXDATA-O/P (out), 16 TXCLOCKI/P, 17 TXDATA+I/P, 18 TXVCC (power)

## XR-T5684J
designator IC?, comment T1 LINE INTERFACE
OC_FARNELL: unknown; OC_NEWARK: unknown
footprint PLCC28
pins: 1 LCLK, 2 TCLK, 3 TPOS, 4 TNEG, 5 MODE, 6 RPOS (out), 7 RNEG (out), 8 RCLK (out), 9 PD, 10 CLKDS, 11 DPM (out), 12 LOS (out), 13 TTIP (out), 14 TGND (power), 15 TVDD (power), 16 TRING (out), 17 MTIP, 18 MRING, 19 RTIP, 20 RRING, 21 RVDD (power), 22 RGND (power), 23 LEN0, 24 LEN1, 25 LEN2, 26 TEST, 27 NC, 28 TAOS

## XR-T5684P
designator IC?, comment T1 LINE INTERFACE
OC_FARNELL: unknown; OC_NEWARK: unknown
footprint DIL28-6
pins: 1 LCLK, 2 TCLK, 3 TPOS, 4 TNEG, 5 MODE, 6 RPOS (out), 7 RNEG (out), 8 RCLK (out), 9 PD, 10 CLKDS, 11 DPM (out), 12 LOS (out), 13 TTIP (out), 14 TGND (power), 15 TVDD (power), 16 TRING (out), 17 MTIP, 18 MRING, 19 RTIP, 20 RRING, 21 RVDD (power), 22 RGND (power), 23 LEN0, 24 LEN1, 25 LEN2, 26 TEST, 27 NC, 28 TAOS

## XR-T5690J
designator IC?, comment T1/ISDN PRIMARY RATE FRAMER
OC_FARNELL: unknown; OC_NEWARK: unknown
footprint PLCC44
pins: 1 TMSYNC, 2 TFSYNC, 3 NC, 4 TCLK, 5 TCHCLK (out), 6 NC@1, 7 TSER, 8 TMO (out), 9 TSIGSEL (out), 10 TSIGFR (out), 11 TABCD, 12 TLINK, 13 TLCLK (out), 14 TPOS (out), 15 TNEG (out), 16 !INT (out), 17 SDI, 18 SDO (out), 19 !CS, 20 SCLK, 21 SPS, 22 VSS (power), 23 RYEL (out), 24 RLINK (out), 25 NC@2, 26 RLCLK, 27 RCLK, 28 NC@3, 29 RCHCLK, 30 RSER (out), 31 RFSYNC, 32 RMSYNC, 33 RABCD (out), 34 RSIGFR, 35 RSIGSEL, 36 TEST, 37 !RST, 38 RPOS, 39 RNEG, 40 RCL (out), 41 RBV, 42 RFER (out), 43 RLOS (out), 44 VDD (power)

## XR-T5690P
designator IC?, comment T1/ISDN PRIMARY RATE FRAMER
OC_FARNELL: unknown; OC_NEWARK: unknown
footprint DIL40
pins: 1 TMSYNC, 2 TFSYNC, 3 TCLK, 4 TCHCLK (out), 5 TSER, 6 TMO (out), 7 TSIGSEL (out), 8 TSIGFR (out), 9 TABCD, 10 TLINK, 11 TLCLK (out), 12 TPOS (out), 13 TNEG (out), 14 !INT (out), 15 SDI, 16 SDO (out), 17 !CS, 18 SCLK, 19 SPS, 20 VSS (power), 21 RYEL (out), 22 RLINK (out), 23 RLCLK, 24 RCLK, 25 RCHCLK, 26 RSER (out), 27 RFSYNC, 28 RMSYNC, 29 RABCD (out), 30 RSIGFR, 31 RSIGSEL, 32 TEST, 33 !RST, 34 RPOS, 35 RNEG, 36 RCL (out), 37 RBV, 38 RFER (out), 39 RLOS (out), 40 VDD (power)

## XR-T5691J
designator IC?, comment T1 receive BUFFER
OC_FARNELL: unknown; OC_NEWARK: unknown
footprint PLCC28
pins: 1 !SIGH, 2 RMSYNC, 3 RCLK, 4 RSER, 5 A (out), 6 B (out), 7 NC, 8 NC@1, 9 C (out), 10 D (out), 11 SCHCLK (out), 12 SM0, 13 SM1, 14 VSS (power), 15 S/!P, 16 FMS, 17 !ALN, 18 SFSYNC, 19 SIGFRZ (out), 20 SMSYNC (out), 21 NC@2, 22 NC@3, 23 SBIT8 (out), 24 !SLIP (out), 25 SSER (out), 26 SYSCLK, 27 SCLKSEL, 28 VDD (power)

## XR-T5691P
designator IC?, comment T1 receive BUFFER
OC_FARNELL: unknown; OC_NEWARK: unknown
footprint DIL24-3
pins: 1 !SIGH, 2 RMSYNC, 3 RCLK, 4 RSER, 5 A (out), 6 B (out), 7 C (out), 8 D (out), 9 SCHCLK (out), 10 SM0, 11 SM1, 12 VSS (power), 13 S/!P, 14 FMS, 15 !ALN, 16 SFSYNC, 17 SIGFRZ (out), 18 SMSYNC (out), 19 SBIT8 (out), 20 !SLIP (out), 21 SSER (out), 22 SYSCLK, 23 SCLKSEL, 24 VDD (power)

## XR-T6165
designator IC?, comment Codirectional digital PROCESSOR
OC_FARNELL: unknown; OC_NEWARK: unknown
footprint DIL22-3
pins: 1 S+R, 2 S-R, 3 BLS, 4 RX2MHZ, 5 BLANK, 6 VCC (power), 7 RXCK2, 8 TS1T, 9 TS2T, 10 T+R (out), 11 T-R (out), 12 TTSEL, 13 ALARMIN, 14 TX256KHZ, 15 PCMIN, 16 TX2MHZ, 17 VSS (power), 18 TS1R, 19 TS2R, 20 RTSEL, 21 PCMOUT (out), 22 ALARM (out)

## XR-T6166
designator IC?, comment Codirectional digital PROCESSOR
OC_FARNELL: unknown; OC_NEWARK: unknown
footprint DIL28-6
pins: 1 ALARM (out), 2 S+R, 3 S-R, 4 BLS, 5 RX2MHZ, 6 BLANK, 7 RXCKOUT (out), 8 VCC (power), 9 RXCK2MHZ, 10 TS1T, 11 BDT (out), 12 TS2T, 13 T+R (out), 14 T-R (out), 15 TTSEL, 16 ALARMIN, 17 TX256KHZ, 18 BIT (out), 19 PCMIN, 20 TX2MHZ, 21 VSS (power), 22 CS (out), 23 TS1R, 24 TS2R, 25 BDR (out), 26 BIR (out), 27 RTSEL, 28 PCMOUT (out)

## XR-T7295P
designator IC?, comment DS3/Sonet STS-1 LINE RECEIVER
OC_FARNELL: unknown; OC_NEWARK: unknown
footprint DIL20
pins: 1 GNDA (power), 2 RIN, 3 TMC1, 4 LPF1, 5 LPF2, 6 TMC2, 7 RLOS (out), 8 RLOL (out), 9 GNDD (power), 10 GNDC (power), 11 VDDD (power), 12 VDDC (power), 13 EXCLK, 14 RCLK (out), 15 RNDATA (out), 16 RPDATA (out), 17 !ICT, 18 REQB, 19 LOSTHR, 20 VDDA (power)

## XR-T7296P
designator IC?, comment DS3/Sonet STS-1 LINE DRIVER
OC_FARNELL: unknown; OC_NEWARK: unknown
footprint DIL28-6
pins: 1 RCLK, 2 RLOOP, 3 LLOOP, 4 STS-1/!E3, 5 TAOS, 6 VDDD (power), 7 TPDATA, 8 TNDATA, 9 TCLK, 10 GNDD (power), 11 ENCODIS, 12 DECODIS, 13 BPV (out), 14 RNRZ (out), 15 RNEG (out), 16 RPOS (out), 17 RCLKO (out), 18 DMO (out), 19 MTIP, 20 MRING, 21 GNDA (power), 22 TRING (out), 23 TTIP (out), 24 VDDA (power), 25 TXLEV, 26 !ICT, 27 RPDATA, 28 RNDATA

## XR-T66100
designator IC?, comment Caller ID RECEIVER
OC_FARNELL: unknown; OC_NEWARK: unknown
footprint DIL16
pins: 1 TIP, 2 RING, 3 RING1, 4 RING2, 5 VREF (out), 6 CHOLD (out), 7 CDLY (out), 8 VSS (power), 9 EDC (out), 10 PWRUP, 11 OSC1, 12 OSC2 (out), 13 RI (out), 14 ED (out), 15 DOUT (out), 16 VDD (power)

## XR-TM044H
designator IC?, comment T1 REPEATER
OC_FARNELL: unknown; OC_NEWARK: unknown
footprint SILP-10
pins: 1 IN+, 2 IN-, 3 OUT- (out), 4 CMD (power), 5 FIL, 6 ALBO, 7 A+, 8 A-, 9 OUT-@1 (out), 10 OUT+ (out)